# Altium integrated library Motorola Microcontroller 8-Bit.IntLib: 909 symbols (part 13 of 31)
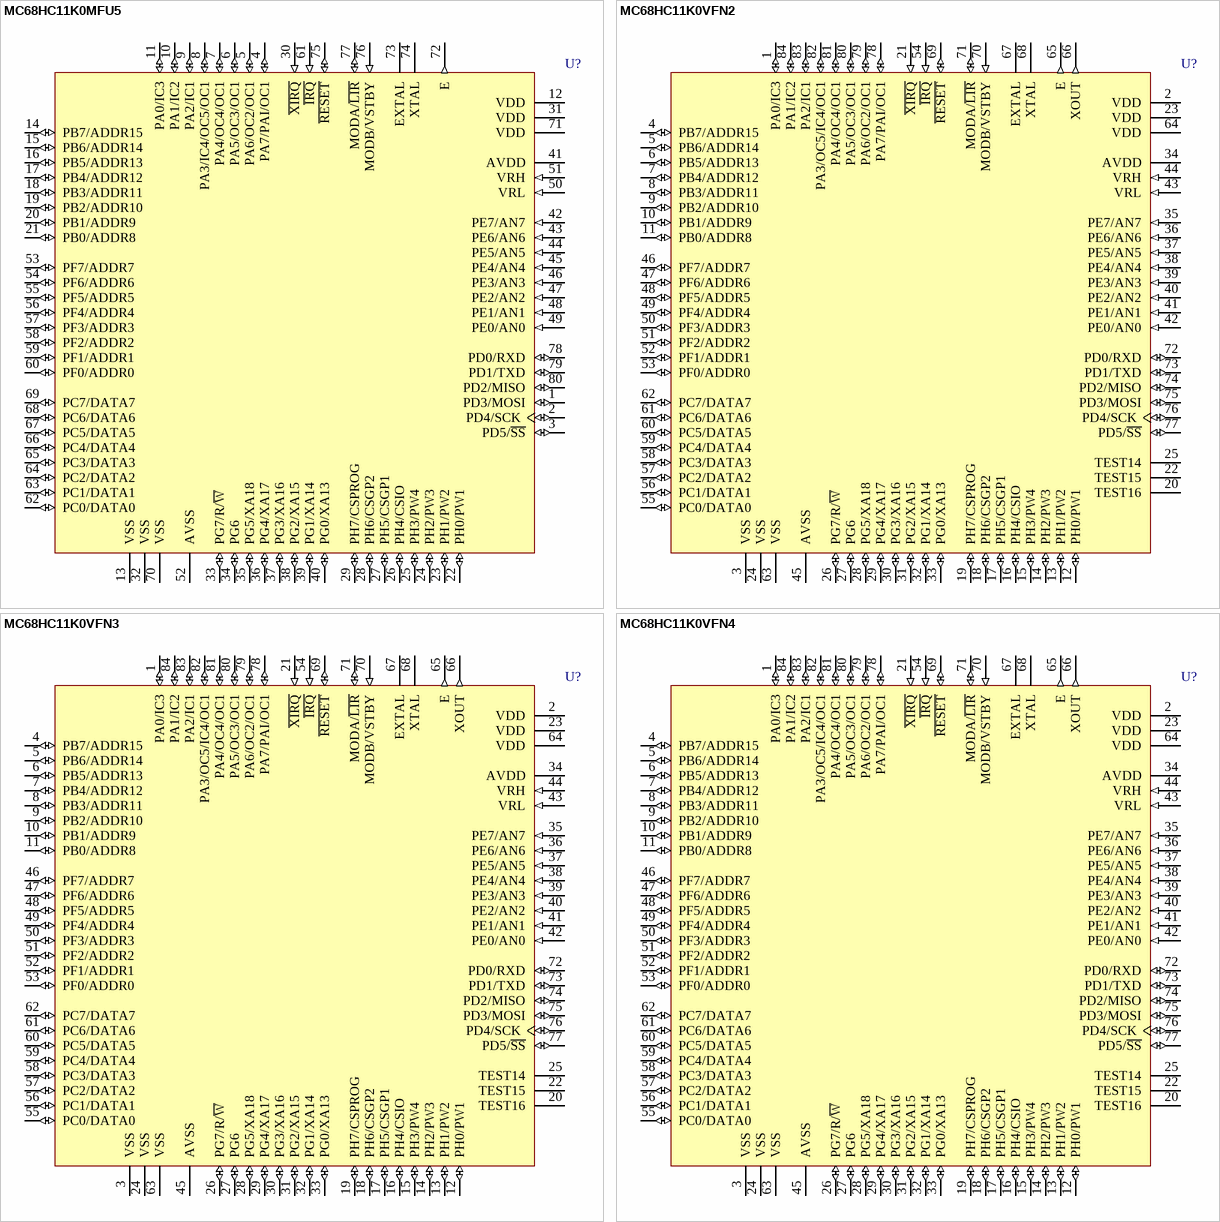
[diagram p125: symbols MC68HC11K0MFU5 to MC68HC11K0VFN4]

## MC68HC11K0VFN3
designator U?
8-Bit Microcontroller; Note: Pins 20, 22 and 25 are used only during factory testing. Do not connect to external circuitry.; Published: 17-Jan-2003; LatestRevisionDate: 13-Apr-2006; LatestRevisionNote: IPC-7351 Footprint Added.; DatasheetVersion: Nov-2001; PackageVersion: 2001; PackageReference: 780; Publisher: Altium Limited; PackageDescription: 84-Pin Plastic Leaded Chip Carrier 1.27 mm Pitch; Code_IPC: PLCC-84; ComponentLink1Description: Manufacturer Link; ComponentLink1URL: http://www.freescale.com/
footprint 780_N (Leaded Chip Carrier, 84-Leads, Body 29.3x29.3mm, Pitch 1.27mm, IPC Medium Density)
footprint 780_L (Leaded Chip Carrier, 84-Leads, Body 29.3x29.3mm, Pitch 1.27mm, IPC High Density)
footprint 780_M (Leaded Chip Carrier, 84-Leads, Body 29.3x29.3mm, Pitch 1.27mm, IPC Low Density)
3D model MC68HC11-780 (84-Pin Plastic Leaded Chip Carrier 1.27 mm Pitch)
pins: 1 PA0/IC3 (io), 2 VDD (power), 3 VSS (power), 4 PB7/ADDR15 (io), 5 PB6/ADDR14 (io), 6 PB5/ADDR13 (io), 7 PB4/ADDR12 (io), 8 PB3/ADDR11 (io), 9 PB2/ADDR10 (io), 10 PB1/ADDR9 (io), 11 PB0/ADDR8 (io), 12 PH0/PW1 (io), 13 PH1/PW2 (io), 14 PH2/PW3 (io), 15 PH3/PW4 (io), 16 PH4/CSIO (io), 17 PH5/CSGP1 (io), 18 PH6/CSGP2 (io), 19 PH7/CSPROG (io), 20 TEST16, 21 ~{XIRQ} (in), 22 TEST15, 23 VDD (power), 24 VSS (power), 25 TEST14, 26 PG7/R/~{W} (io), 27 PG6 (io), 28 PG5/XA18 (io), 29 PG4/XA17 (io), 30 PG3/XA16 (io), 31 PG2/XA15 (io), 32 PG1/XA14 (io), 33 PG0/XA13 (io), 34 AVDD (power), 35 PE7/AN7 (in), 36 PE6/AN6 (in), 37 PE5/AN5 (in), 38 PE4/AN4 (in), 39 PE3/AN3 (in), 40 PE2/AN2 (in), 41 PE1/AN1 (in), 42 PE0/AN0 (in), 43 VRL (in), 44 VRH (in), 45 AVSS (power), 46 PF7/ADDR7 (io), 47 PF6/ADDR6 (io), 48 PF5/ADDR5 (io), 49 PF4/ADDR4 (io), 50 PF3/ADDR3 (io), 51 PF2/ADDR2 (io), 52 PF1/ADDR1 (io), 53 PF0/ADDR0 (io), 54 ~{IRQ} (in), 55 PC0/DATA0 (io), 56 PC1/DATA1 (io), 57 PC2/DATA2 (io), 58 PC3/DATA3 (io), 59 PC4/DATA4 (io), 60 PC5/DATA5 (io), 61 PC6/DATA6 (io), 62 PC7/DATA7 (io), 63 VSS (power), 64 VDD (power), 65 E (out), 66 XOUT (out), 67 EXTAL, 68 XTAL, 69 ~{RESET} (io), 70 MODB/VSTBY (in), 71 MODA/~{LIR} (io), 72 PD0/RXD (io), 73 PD1/TXD (io), 74 PD2/MISO (io), 75 PD3/MOSI (io), 76 PD4/SCK (io), 77 PD5/~{SS} (io), 78 PA7/PAI/OC1 (io), 79 PA6/OC2/OC1 (io), 80 PA5/OC3/OC1 (io), 81 PA4/OC4/OC1 (io), 82 PA3/OC5/IC4/OC1 (io), 83 PA2/IC1 (io), 84 PA1/IC2 (io)

## MC68HC11K0VFN4
designator U?
8-Bit Microcontroller; Note: Pins 20, 22 and 25 are used only during factory testing. Do not connect to external circuitry.; Published: 17-Jan-2003; LatestRevisionDate: 13-Apr-2006; LatestRevisionNote: IPC-7351 Footprint Added.; DatasheetVersion: Nov-2001; PackageVersion: 2001; PackageReference: 780; Publisher: Altium Limited; PackageDescription: 84-Pin Plastic Leaded Chip Carrier 1.27 mm Pitch; Code_IPC: PLCC-84; ComponentLink1Description: Manufacturer Link; ComponentLink1URL: http://www.freescale.com/
footprint 780_N (Leaded Chip Carrier, 84-Leads, Body 29.3x29.3mm, Pitch 1.27mm, IPC Medium Density)
footprint 780_L (Leaded Chip Carrier, 84-Leads, Body 29.3x29.3mm, Pitch 1.27mm, IPC High Density)
footprint 780_M (Leaded Chip Carrier, 84-Leads, Body 29.3x29.3mm, Pitch 1.27mm, IPC Low Density)
3D model MC68HC11-780 (84-Pin Plastic Leaded Chip Carrier 1.27 mm Pitch)
pins: 1 PA0/IC3 (io), 2 VDD (power), 3 VSS (power), 4 PB7/ADDR15 (io), 5 PB6/ADDR14 (io), 6 PB5/ADDR13 (io), 7 PB4/ADDR12 (io), 8 PB3/ADDR11 (io), 9 PB2/ADDR10 (io), 10 PB1/ADDR9 (io), 11 PB0/ADDR8 (io), 12 PH0/PW1 (io), 13 PH1/PW2 (io), 14 PH2/PW3 (io), 15 PH3/PW4 (io), 16 PH4/CSIO (io), 17 PH5/CSGP1 (io), 18 PH6/CSGP2 (io), 19 PH7/CSPROG (io), 20 TEST16, 21 ~{XIRQ} (in), 22 TEST15, 23 VDD (power), 24 VSS (power), 25 TEST14, 26 PG7/R/~{W} (io), 27 PG6 (io), 28 PG5/XA18 (io), 29 PG4/XA17 (io), 30 PG3/XA16 (io), 31 PG2/XA15 (io), 32 PG1/XA14 (io), 33 PG0/XA13 (io), 34 AVDD (power), 35 PE7/AN7 (in), 36 PE6/AN6 (in), 37 PE5/AN5 (in), 38 PE4/AN4 (in), 39 PE3/AN3 (in), 40 PE2/AN2 (in), 41 PE1/AN1 (in), 42 PE0/AN0 (in), 43 VRL (in), 44 VRH (in), 45 AVSS (power), 46 PF7/ADDR7 (io), 47 PF6/ADDR6 (io), 48 PF5/ADDR5 (io), 49 PF4/ADDR4 (io), 50 PF3/ADDR3 (io), 51 PF2/ADDR2 (io), 52 PF1/ADDR1 (io), 53 PF0/ADDR0 (io), 54 ~{IRQ} (in), 55 PC0/DATA0 (io), 56 PC1/DATA1 (io), 57 PC2/DATA2 (io), 58 PC3/DATA3 (io), 59 PC4/DATA4 (io), 60 PC5/DATA5 (io), 61 PC6/DATA6 (io), 62 PC7/DATA7 (io), 63 VSS (power), 64 VDD (power), 65 E (out), 66 XOUT (out), 67 EXTAL, 68 XTAL, 69 ~{RESET} (io), 70 MODB/VSTBY (in), 71 MODA/~{LIR} (io), 72 PD0/RXD (io), 73 PD1/TXD (io), 74 PD2/MISO (io), 75 PD3/MOSI (io), 76 PD4/SCK (io), 77 PD5/~{SS} (io), 78 PA7/PAI/OC1 (io), 79 PA6/OC2/OC1 (io), 80 PA5/OC3/OC1 (io), 81 PA4/OC4/OC1 (io), 82 PA3/OC5/IC4/OC1 (io), 83 PA2/IC1 (io), 84 PA1/IC2 (io)

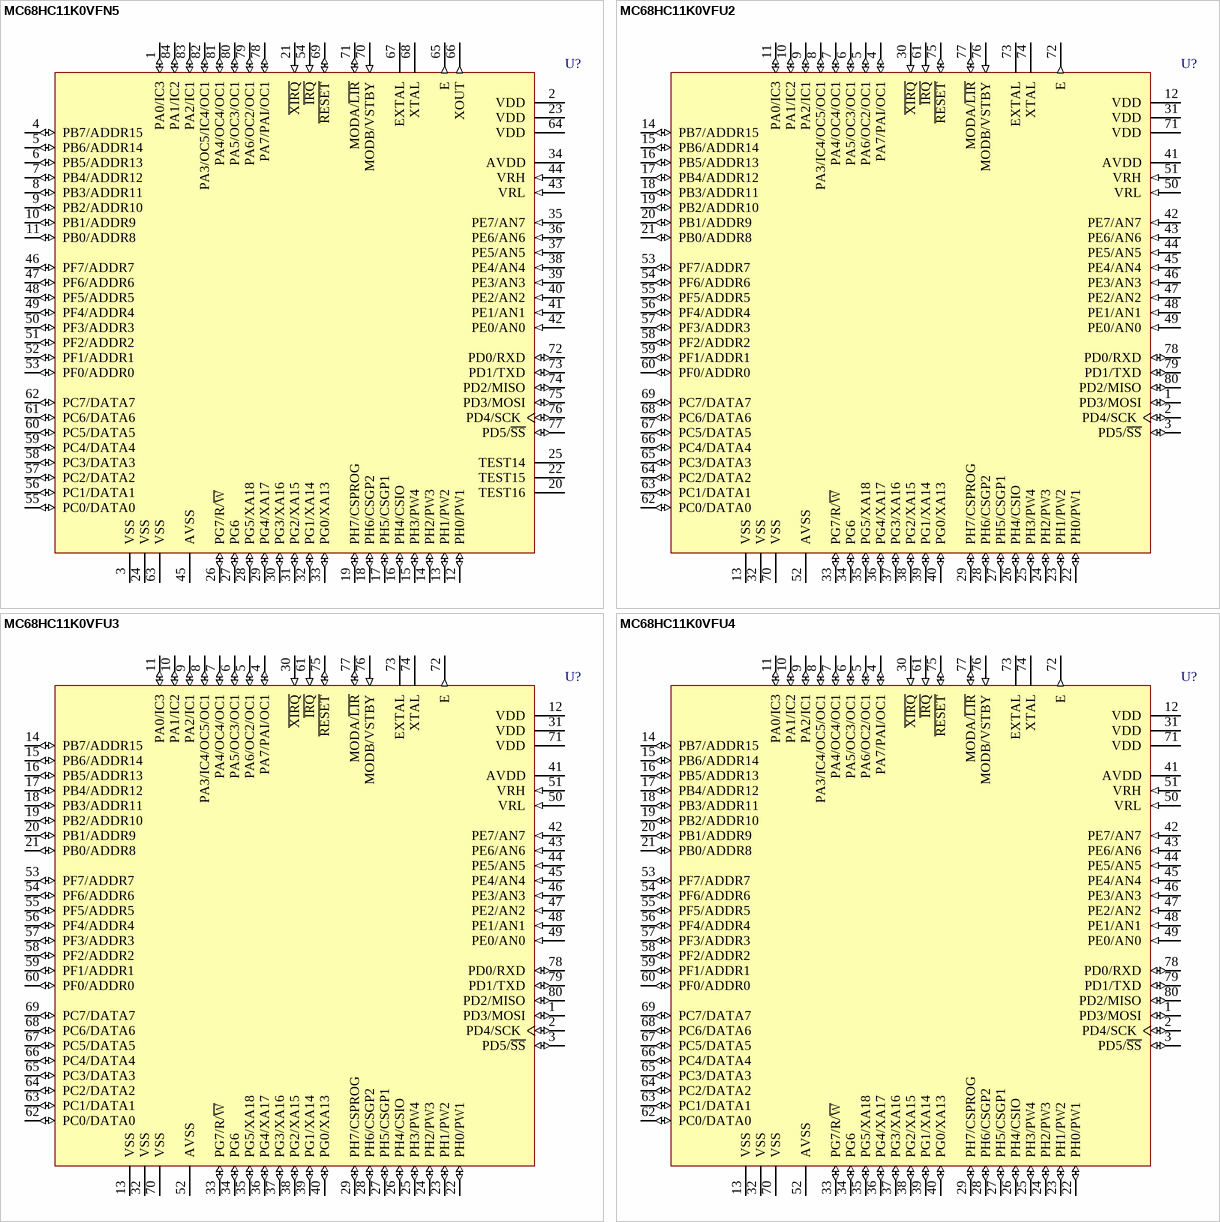
[diagram p41: symbols MC68HC11K0VFN5 to MC68HC11K0VFU4]

## MC68HC11K0VFN5
designator U?
8-Bit Microcontroller; Note: Pins 20, 22 and 25 are used only during factory testing. Do not connect to external circuitry.; Published: 17-Jan-2003; LatestRevisionDate: 13-Apr-2006; LatestRevisionNote: IPC-7351 Footprint Added.; DatasheetVersion: Nov-2001; PackageVersion: 2001; PackageReference: 780; Publisher: Altium Limited; PackageDescription: 84-Pin Plastic Leaded Chip Carrier 1.27 mm Pitch; Code_IPC: PLCC-84; ComponentLink1Description: Manufacturer Link; ComponentLink1URL: http://www.freescale.com/
footprint 780_N (Leaded Chip Carrier, 84-Leads, Body 29.3x29.3mm, Pitch 1.27mm, IPC Medium Density)
footprint 780_L (Leaded Chip Carrier, 84-Leads, Body 29.3x29.3mm, Pitch 1.27mm, IPC High Density)
footprint 780_M (Leaded Chip Carrier, 84-Leads, Body 29.3x29.3mm, Pitch 1.27mm, IPC Low Density)
3D model MC68HC11-780 (84-Pin Plastic Leaded Chip Carrier 1.27 mm Pitch)
pins: 1 PA0/IC3 (io), 2 VDD (power), 3 VSS (power), 4 PB7/ADDR15 (io), 5 PB6/ADDR14 (io), 6 PB5/ADDR13 (io), 7 PB4/ADDR12 (io), 8 PB3/ADDR11 (io), 9 PB2/ADDR10 (io), 10 PB1/ADDR9 (io), 11 PB0/ADDR8 (io), 12 PH0/PW1 (io), 13 PH1/PW2 (io), 14 PH2/PW3 (io), 15 PH3/PW4 (io), 16 PH4/CSIO (io), 17 PH5/CSGP1 (io), 18 PH6/CSGP2 (io), 19 PH7/CSPROG (io), 20 TEST16, 21 ~{XIRQ} (in), 22 TEST15, 23 VDD (power), 24 VSS (power), 25 TEST14, 26 PG7/R/~{W} (io), 27 PG6 (io), 28 PG5/XA18 (io), 29 PG4/XA17 (io), 30 PG3/XA16 (io), 31 PG2/XA15 (io), 32 PG1/XA14 (io), 33 PG0/XA13 (io), 34 AVDD (power), 35 PE7/AN7 (in), 36 PE6/AN6 (in), 37 PE5/AN5 (in), 38 PE4/AN4 (in), 39 PE3/AN3 (in), 40 PE2/AN2 (in), 41 PE1/AN1 (in), 42 PE0/AN0 (in), 43 VRL (in), 44 VRH (in), 45 AVSS (power), 46 PF7/ADDR7 (io), 47 PF6/ADDR6 (io), 48 PF5/ADDR5 (io), 49 PF4/ADDR4 (io), 50 PF3/ADDR3 (io), 51 PF2/ADDR2 (io), 52 PF1/ADDR1 (io), 53 PF0/ADDR0 (io), 54 ~{IRQ} (in), 55 PC0/DATA0 (io), 56 PC1/DATA1 (io), 57 PC2/DATA2 (io), 58 PC3/DATA3 (io), 59 PC4/DATA4 (io), 60 PC5/DATA5 (io), 61 PC6/DATA6 (io), 62 PC7/DATA7 (io), 63 VSS (power), 64 VDD (power), 65 E (out), 66 XOUT (out), 67 EXTAL, 68 XTAL, 69 ~{RESET} (io), 70 MODB/VSTBY (in), 71 MODA/~{LIR} (io), 72 PD0/RXD (io), 73 PD1/TXD (io), 74 PD2/MISO (io), 75 PD3/MOSI (io), 76 PD4/SCK (io), 77 PD5/~{SS} (io), 78 PA7/PAI/OC1 (io), 79 PA6/OC2/OC1 (io), 80 PA5/OC3/OC1 (io), 81 PA4/OC4/OC1 (io), 82 PA3/OC5/IC4/OC1 (io), 83 PA2/IC1 (io), 84 PA1/IC2 (io)

## MC68HC11K0VFU2
designator U?
8-Bit Microcontroller; Published: 17-Jan-2003; LatestRevisionDate: 13-Apr-2006; LatestRevisionNote: IPC-7351 Footprint Added.; DatasheetVersion: Nov-2001; PackageVersion: 2000; PackageReference: 841B; Publisher: Altium Limited; PackageDescription: 80-Pin Plastic Quad Flat Pack 0.65 mm Pitch; Code_IPC: QFP65P1720X1720-80; ComponentLink1Description: Manufacturer Link; ComponentLink1URL: http://www.freescale.com/
footprint 841B_N (QFP, 80-Leads, Body 14 x 14mm, Pitch 0.65mm, IPC Medium Density)
footprint 841B_L (QFP, 80-Leads, Body 14 x 14mm, Pitch 0.65mm, IPC High Density)
footprint 841B_M (QFP, 80-Leads, Body 14 x 14mm, Pitch 0.65mm, IPC Low Density)
3D model MC68HC11-841B (80-Pin Plastic Quad Flat Pack 0.65 mm Pitch)
pins: 1 PD3/MOSI (io), 2 PD4/SCK (io), 3 PD5/~{SS} (io), 4 PA7/PAI/OC1 (io), 5 PA6/OC2/OC1 (io), 6 PA5/OC3/OC1 (io), 7 PA4/OC4/OC1 (io), 8 PA3/IC4/OC5/OC1 (io), 9 PA2/IC1 (io), 10 PA1/IC2 (io), 11 PA0/IC3 (io), 12 VDD (power), 13 VSS (power), 14 PB7/ADDR15 (io), 15 PB6/ADDR14 (io), 16 PB5/ADDR13 (io), 17 PB4/ADDR12 (io), 18 PB3/ADDR11 (io), 19 PB2/ADDR10 (io), 20 PB1/ADDR9 (io), 21 PB0/ADDR8 (io), 22 PH0/PW1 (io), 23 PH1/PW2 (io), 24 PH2/PW3 (io), 25 PH3/PW4 (io), 26 PH4/CSIO (io), 27 PH5/CSGP1 (io), 28 PH6/CSGP2 (io), 29 PH7/CSPROG (io), 30 ~{XIRQ} (in), 31 VDD (power), 32 VSS (power), 33 PG7/R/~{W} (io), 34 PG6 (io), 35 PG5/XA18 (io), 36 PG4/XA17 (io), 37 PG3/XA16 (io), 38 PG2/XA15 (io), 39 PG1/XA14 (io), 40 PG0/XA13 (io), 41 AVDD (power), 42 PE7/AN7 (in), 43 PE6/AN6 (in), 44 PE5/AN5 (in), 45 PE4/AN4 (in), 46 PE3/AN3 (in), 47 PE2/AN2 (in), 48 PE1/AN1 (in), 49 PE0/AN0 (in), 50 VRL (in), 51 VRH (in), 52 AVSS (power), 53 PF7/ADDR7 (io), 54 PF6/ADDR6 (io), 55 PF5/ADDR5 (io), 56 PF4/ADDR4 (io), 57 PF3/ADDR3 (io), 58 PF2/ADDR2 (io), 59 PF1/ADDR1 (io), 60 PF0/ADDR0 (io), 61 ~{IRQ} (in), 62 PC0/DATA0 (io), 63 PC1/DATA1 (io), 64 PC2/DATA2 (io), 65 PC3/DATA3 (io), 66 PC4/DATA4 (io), 67 PC5/DATA5 (io), 68 PC6/DATA6 (io), 69 PC7/DATA7 (io), 70 VSS (power), 71 VDD (power), 72 E (out), 73 EXTAL, 74 XTAL, 75 ~{RESET} (io), 76 MODB/VSTBY (in), 77 MODA/~{LIR} (io), 78 PD0/RXD (io), 79 PD1/TXD (io), 80 PD2/MISO (io)

## MC68HC11K0VFU3
designator U?
8-Bit Microcontroller; Published: 17-Jan-2003; LatestRevisionDate: 13-Apr-2006; LatestRevisionNote: IPC-7351 Footprint Added.; DatasheetVersion: Nov-2001; PackageVersion: 2000; PackageReference: 841B; Publisher: Altium Limited; PackageDescription: 80-Pin Plastic Quad Flat Pack 0.65 mm Pitch; Code_IPC: QFP65P1720X1720-80; ComponentLink1Description: Manufacturer Link; ComponentLink1URL: http://www.freescale.com/
footprint 841B_N (QFP, 80-Leads, Body 14 x 14mm, Pitch 0.65mm, IPC Medium Density)
footprint 841B_L (QFP, 80-Leads, Body 14 x 14mm, Pitch 0.65mm, IPC High Density)
footprint 841B_M (QFP, 80-Leads, Body 14 x 14mm, Pitch 0.65mm, IPC Low Density)
3D model MC68HC11-841B (80-Pin Plastic Quad Flat Pack 0.65 mm Pitch)
pins: 1 PD3/MOSI (io), 2 PD4/SCK (io), 3 PD5/~{SS} (io), 4 PA7/PAI/OC1 (io), 5 PA6/OC2/OC1 (io), 6 PA5/OC3/OC1 (io), 7 PA4/OC4/OC1 (io), 8 PA3/IC4/OC5/OC1 (io), 9 PA2/IC1 (io), 10 PA1/IC2 (io), 11 PA0/IC3 (io), 12 VDD (power), 13 VSS (power), 14 PB7/ADDR15 (io), 15 PB6/ADDR14 (io), 16 PB5/ADDR13 (io), 17 PB4/ADDR12 (io), 18 PB3/ADDR11 (io), 19 PB2/ADDR10 (io), 20 PB1/ADDR9 (io), 21 PB0/ADDR8 (io), 22 PH0/PW1 (io), 23 PH1/PW2 (io), 24 PH2/PW3 (io), 25 PH3/PW4 (io), 26 PH4/CSIO (io), 27 PH5/CSGP1 (io), 28 PH6/CSGP2 (io), 29 PH7/CSPROG (io), 30 ~{XIRQ} (in), 31 VDD (power), 32 VSS (power), 33 PG7/R/~{W} (io), 34 PG6 (io), 35 PG5/XA18 (io), 36 PG4/XA17 (io), 37 PG3/XA16 (io), 38 PG2/XA15 (io), 39 PG1/XA14 (io), 40 PG0/XA13 (io), 41 AVDD (power), 42 PE7/AN7 (in), 43 PE6/AN6 (in), 44 PE5/AN5 (in), 45 PE4/AN4 (in), 46 PE3/AN3 (in), 47 PE2/AN2 (in), 48 PE1/AN1 (in), 49 PE0/AN0 (in), 50 VRL (in), 51 VRH (in), 52 AVSS (power), 53 PF7/ADDR7 (io), 54 PF6/ADDR6 (io), 55 PF5/ADDR5 (io), 56 PF4/ADDR4 (io), 57 PF3/ADDR3 (io), 58 PF2/ADDR2 (io), 59 PF1/ADDR1 (io), 60 PF0/ADDR0 (io), 61 ~{IRQ} (in), 62 PC0/DATA0 (io), 63 PC1/DATA1 (io), 64 PC2/DATA2 (io), 65 PC3/DATA3 (io), 66 PC4/DATA4 (io), 67 PC5/DATA5 (io), 68 PC6/DATA6 (io), 69 PC7/DATA7 (io), 70 VSS (power), 71 VDD (power), 72 E (out), 73 EXTAL, 74 XTAL, 75 ~{RESET} (io), 76 MODB/VSTBY (in), 77 MODA/~{LIR} (io), 78 PD0/RXD (io), 79 PD1/TXD (io), 80 PD2/MISO (io)

## MC68HC11K0VFU4
designator U?
8-Bit Microcontroller; Published: 17-Jan-2003; LatestRevisionDate: 13-Apr-2006; LatestRevisionNote: IPC-7351 Footprint Added.; DatasheetVersion: Nov-2001; PackageVersion: 2000; PackageReference: 841B; Publisher: Altium Limited; PackageDescription: 80-Pin Plastic Quad Flat Pack 0.65 mm Pitch; Code_IPC: QFP65P1720X1720-80; ComponentLink1Description: Manufacturer Link; ComponentLink1URL: http://www.freescale.com/
footprint 841B_N (QFP, 80-Leads, Body 14 x 14mm, Pitch 0.65mm, IPC Medium Density)
footprint 841B_L (QFP, 80-Leads, Body 14 x 14mm, Pitch 0.65mm, IPC High Density)
footprint 841B_M (QFP, 80-Leads, Body 14 x 14mm, Pitch 0.65mm, IPC Low Density)
3D model MC68HC11-841B (80-Pin Plastic Quad Flat Pack 0.65 mm Pitch)
pins: 1 PD3/MOSI (io), 2 PD4/SCK (io), 3 PD5/~{SS} (io), 4 PA7/PAI/OC1 (io), 5 PA6/OC2/OC1 (io), 6 PA5/OC3/OC1 (io), 7 PA4/OC4/OC1 (io), 8 PA3/IC4/OC5/OC1 (io), 9 PA2/IC1 (io), 10 PA1/IC2 (io), 11 PA0/IC3 (io), 12 VDD (power), 13 VSS (power), 14 PB7/ADDR15 (io), 15 PB6/ADDR14 (io), 16 PB5/ADDR13 (io), 17 PB4/ADDR12 (io), 18 PB3/ADDR11 (io), 19 PB2/ADDR10 (io), 20 PB1/ADDR9 (io), 21 PB0/ADDR8 (io), 22 PH0/PW1 (io), 23 PH1/PW2 (io), 24 PH2/PW3 (io), 25 PH3/PW4 (io), 26 PH4/CSIO (io), 27 PH5/CSGP1 (io), 28 PH6/CSGP2 (io), 29 PH7/CSPROG (io), 30 ~{XIRQ} (in), 31 VDD (power), 32 VSS (power), 33 PG7/R/~{W} (io), 34 PG6 (io), 35 PG5/XA18 (io), 36 PG4/XA17 (io), 37 PG3/XA16 (io), 38 PG2/XA15 (io), 39 PG1/XA14 (io), 40 PG0/XA13 (io), 41 AVDD (power), 42 PE7/AN7 (in), 43 PE6/AN6 (in), 44 PE5/AN5 (in), 45 PE4/AN4 (in), 46 PE3/AN3 (in), 47 PE2/AN2 (in), 48 PE1/AN1 (in), 49 PE0/AN0 (in), 50 VRL (in), 51 VRH (in), 52 AVSS (power), 53 PF7/ADDR7 (io), 54 PF6/ADDR6 (io), 55 PF5/ADDR5 (io), 56 PF4/ADDR4 (io), 57 PF3/ADDR3 (io), 58 PF2/ADDR2 (io), 59 PF1/ADDR1 (io), 60 PF0/ADDR0 (io), 61 ~{IRQ} (in), 62 PC0/DATA0 (io), 63 PC1/DATA1 (io), 64 PC2/DATA2 (io), 65 PC3/DATA3 (io), 66 PC4/DATA4 (io), 67 PC5/DATA5 (io), 68 PC6/DATA6 (io), 69 PC7/DATA7 (io), 70 VSS (power), 71 VDD (power), 72 E (out), 73 EXTAL, 74 XTAL, 75 ~{RESET} (io), 76 MODB/VSTBY (in), 77 MODA/~{LIR} (io), 78 PD0/RXD (io), 79 PD1/TXD (io), 80 PD2/MISO (io)

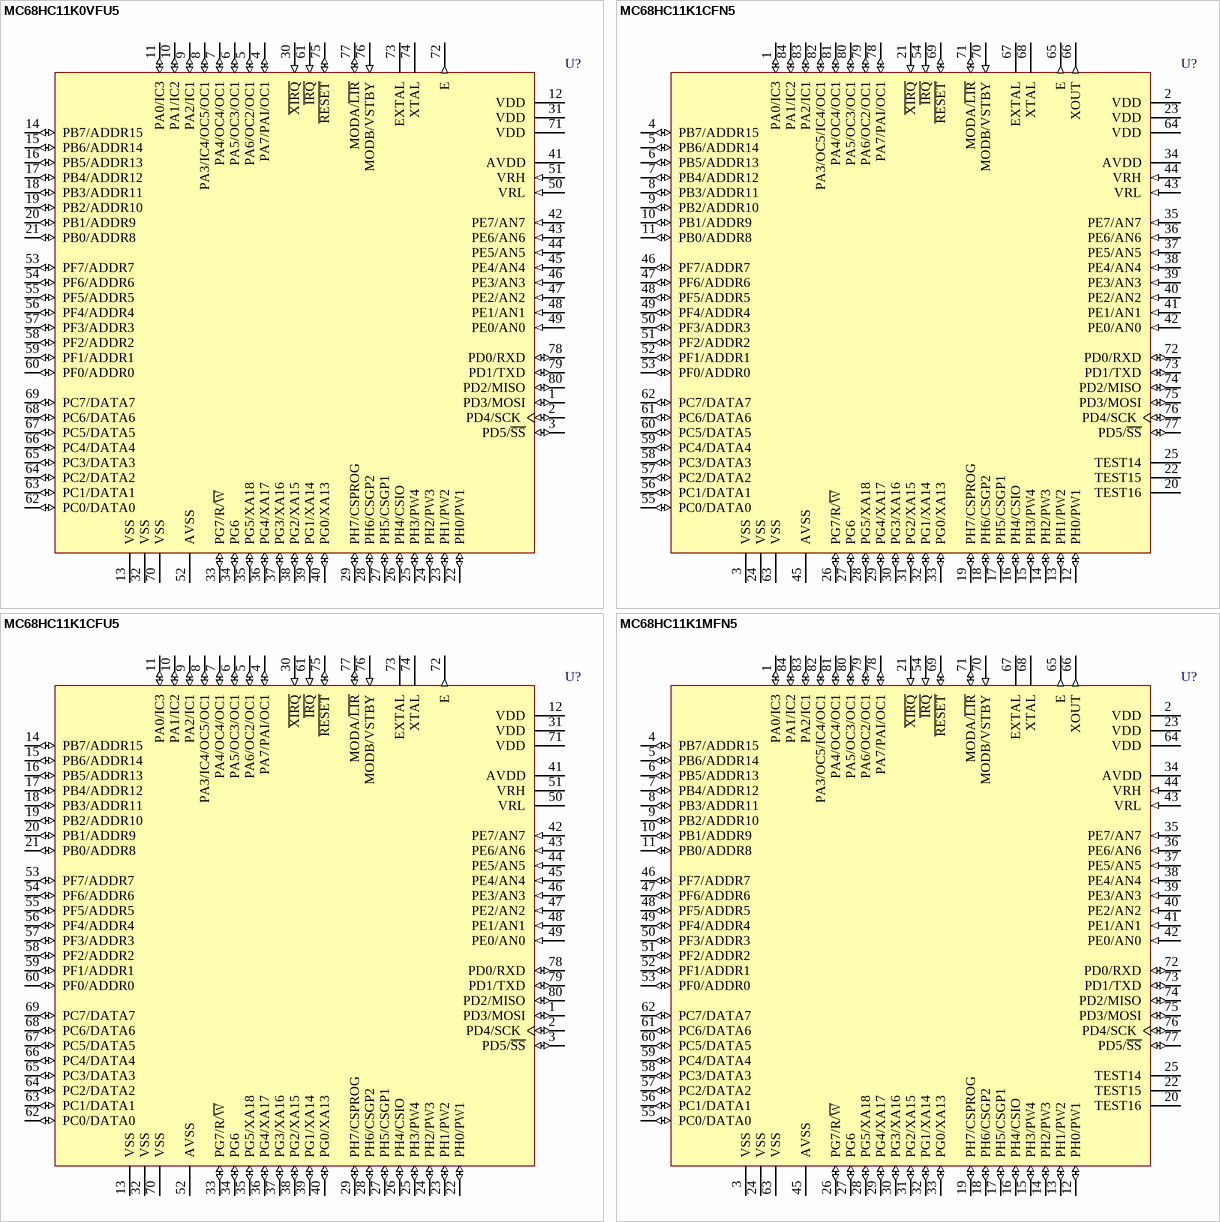
[diagram p42: symbols MC68HC11K0VFU5 to MC68HC11K1MFN5]

## MC68HC11K0VFU5
designator U?
8-Bit Microcontroller; Published: 17-Jan-2003; LatestRevisionDate: 13-Apr-2006; LatestRevisionNote: IPC-7351 Footprint Added.; DatasheetVersion: Nov-2001; PackageVersion: 2000; PackageReference: 841B; Publisher: Altium Limited; PackageDescription: 80-Pin Plastic Quad Flat Pack 0.65 mm Pitch; Code_IPC: QFP65P1720X1720-80; ComponentLink1Description: Manufacturer Link; ComponentLink1URL: http://www.freescale.com/
footprint 841B_N (QFP, 80-Leads, Body 14 x 14mm, Pitch 0.65mm, IPC Medium Density)
footprint 841B_L (QFP, 80-Leads, Body 14 x 14mm, Pitch 0.65mm, IPC High Density)
footprint 841B_M (QFP, 80-Leads, Body 14 x 14mm, Pitch 0.65mm, IPC Low Density)
3D model MC68HC11-841B (80-Pin Plastic Quad Flat Pack 0.65 mm Pitch)
pins: 1 PD3/MOSI (io), 2 PD4/SCK (io), 3 PD5/~{SS} (io), 4 PA7/PAI/OC1 (io), 5 PA6/OC2/OC1 (io), 6 PA5/OC3/OC1 (io), 7 PA4/OC4/OC1 (io), 8 PA3/IC4/OC5/OC1 (io), 9 PA2/IC1 (io), 10 PA1/IC2 (io), 11 PA0/IC3 (io), 12 VDD (power), 13 VSS (power), 14 PB7/ADDR15 (io), 15 PB6/ADDR14 (io), 16 PB5/ADDR13 (io), 17 PB4/ADDR12 (io), 18 PB3/ADDR11 (io), 19 PB2/ADDR10 (io), 20 PB1/ADDR9 (io), 21 PB0/ADDR8 (io), 22 PH0/PW1 (io), 23 PH1/PW2 (io), 24 PH2/PW3 (io), 25 PH3/PW4 (io), 26 PH4/CSIO (io), 27 PH5/CSGP1 (io), 28 PH6/CSGP2 (io), 29 PH7/CSPROG (io), 30 ~{XIRQ} (in), 31 VDD (power), 32 VSS (power), 33 PG7/R/~{W} (io), 34 PG6 (io), 35 PG5/XA18 (io), 36 PG4/XA17 (io), 37 PG3/XA16 (io), 38 PG2/XA15 (io), 39 PG1/XA14 (io), 40 PG0/XA13 (io), 41 AVDD (power), 42 PE7/AN7 (in), 43 PE6/AN6 (in), 44 PE5/AN5 (in), 45 PE4/AN4 (in), 46 PE3/AN3 (in), 47 PE2/AN2 (in), 48 PE1/AN1 (in), 49 PE0/AN0 (in), 50 VRL (in), 51 VRH (in), 52 AVSS (power), 53 PF7/ADDR7 (io), 54 PF6/ADDR6 (io), 55 PF5/ADDR5 (io), 56 PF4/ADDR4 (io), 57 PF3/ADDR3 (io), 58 PF2/ADDR2 (io), 59 PF1/ADDR1 (io), 60 PF0/ADDR0 (io), 61 ~{IRQ} (in), 62 PC0/DATA0 (io), 63 PC1/DATA1 (io), 64 PC2/DATA2 (io), 65 PC3/DATA3 (io), 66 PC4/DATA4 (io), 67 PC5/DATA5 (io), 68 PC6/DATA6 (io), 69 PC7/DATA7 (io), 70 VSS (power), 71 VDD (power), 72 E (out), 73 EXTAL, 74 XTAL, 75 ~{RESET} (io), 76 MODB/VSTBY (in), 77 MODA/~{LIR} (io), 78 PD0/RXD (io), 79 PD1/TXD (io), 80 PD2/MISO (io)

## MC68HC11K1CFN5
designator U?
8-Bit Microcontroller; Note: Pins 20, 22 and 25 are used only during factory testing. Do not connect to external circuitry.; Published: 17-Jan-2003; LatestRevisionDate: 13-Apr-2006; LatestRevisionNote: IPC-7351 Footprint Added.; DatasheetVersion: Nov-2001; PackageVersion: 2001; PackageReference: 780; Publisher: Altium Limited; PackageDescription: 84-Pin Plastic Leaded Chip Carrier 1.27 mm Pitch; Code_IPC: PLCC-84; ComponentLink1Description: Manufacturer Link; ComponentLink1URL: http://www.freescale.com/
footprint 780_N (Leaded Chip Carrier, 84-Leads, Body 29.3x29.3mm, Pitch 1.27mm, IPC Medium Density)
footprint 780_L (Leaded Chip Carrier, 84-Leads, Body 29.3x29.3mm, Pitch 1.27mm, IPC High Density)
footprint 780_M (Leaded Chip Carrier, 84-Leads, Body 29.3x29.3mm, Pitch 1.27mm, IPC Low Density)
3D model MC68HC11-780 (84-Pin Plastic Leaded Chip Carrier 1.27 mm Pitch)
pins: 1 PA0/IC3 (io), 2 VDD (power), 3 VSS (power), 4 PB7/ADDR15 (io), 5 PB6/ADDR14 (io), 6 PB5/ADDR13 (io), 7 PB4/ADDR12 (io), 8 PB3/ADDR11 (io), 9 PB2/ADDR10 (io), 10 PB1/ADDR9 (io), 11 PB0/ADDR8 (io), 12 PH0/PW1 (io), 13 PH1/PW2 (io), 14 PH2/PW3 (io), 15 PH3/PW4 (io), 16 PH4/CSIO (io), 17 PH5/CSGP1 (io), 18 PH6/CSGP2 (io), 19 PH7/CSPROG (io), 20 TEST16, 21 ~{XIRQ} (in), 22 TEST15, 23 VDD (power), 24 VSS (power), 25 TEST14, 26 PG7/R/~{W} (io), 27 PG6 (io), 28 PG5/XA18 (io), 29 PG4/XA17 (io), 30 PG3/XA16 (io), 31 PG2/XA15 (io), 32 PG1/XA14 (io), 33 PG0/XA13 (io), 34 AVDD (power), 35 PE7/AN7 (in), 36 PE6/AN6 (in), 37 PE5/AN5 (in), 38 PE4/AN4 (in), 39 PE3/AN3 (in), 40 PE2/AN2 (in), 41 PE1/AN1 (in), 42 PE0/AN0 (in), 43 VRL (in), 44 VRH (in), 45 AVSS (power), 46 PF7/ADDR7 (io), 47 PF6/ADDR6 (io), 48 PF5/ADDR5 (io), 49 PF4/ADDR4 (io), 50 PF3/ADDR3 (io), 51 PF2/ADDR2 (io), 52 PF1/ADDR1 (io), 53 PF0/ADDR0 (io), 54 ~{IRQ} (in), 55 PC0/DATA0 (io), 56 PC1/DATA1 (io), 57 PC2/DATA2 (io), 58 PC3/DATA3 (io), 59 PC4/DATA4 (io), 60 PC5/DATA5 (io), 61 PC6/DATA6 (io), 62 PC7/DATA7 (io), 63 VSS (power), 64 VDD (power), 65 E (out), 66 XOUT (out), 67 EXTAL, 68 XTAL, 69 ~{RESET} (io), 70 MODB/VSTBY (in), 71 MODA/~{LIR} (io), 72 PD0/RXD (io), 73 PD1/TXD (io), 74 PD2/MISO (io), 75 PD3/MOSI (io), 76 PD4/SCK (io), 77 PD5/~{SS} (io), 78 PA7/PAI/OC1 (io), 79 PA6/OC2/OC1 (io), 80 PA5/OC3/OC1 (io), 81 PA4/OC4/OC1 (io), 82 PA3/OC5/IC4/OC1 (io), 83 PA2/IC1 (io), 84 PA1/IC2 (io)

## MC68HC11K1CFU5
designator U?
8-Bit Microcontroller; Published: 17-Jan-2003; LatestRevisionDate: 13-Apr-2006; LatestRevisionNote: IPC-7351 Footprint Added.; DatasheetVersion: Nov-2001; PackageVersion: 2000; PackageReference: 841B; Publisher: Altium Limited; PackageDescription: 80-Pin Plastic Quad Flat Pack 0.65 mm Pitch; Code_IPC: QFP65P1720X1720-80; ComponentLink1Description: Manufacturer Link; ComponentLink1URL: http://www.freescale.com/
footprint 841B_N (QFP, 80-Leads, Body 14 x 14mm, Pitch 0.65mm, IPC Medium Density)
footprint 841B_L (QFP, 80-Leads, Body 14 x 14mm, Pitch 0.65mm, IPC High Density)
footprint 841B_M (QFP, 80-Leads, Body 14 x 14mm, Pitch 0.65mm, IPC Low Density)
3D model MC68HC11-841B (80-Pin Plastic Quad Flat Pack 0.65 mm Pitch)
pins: 1 PD3/MOSI (io), 2 PD4/SCK (io), 3 PD5/~{SS} (io), 4 PA7/PAI/OC1 (io), 5 PA6/OC2/OC1 (io), 6 PA5/OC3/OC1 (io), 7 PA4/OC4/OC1 (io), 8 PA3/IC4/OC5/OC1 (io), 9 PA2/IC1 (io), 10 PA1/IC2 (io), 11 PA0/IC3 (io), 12 VDD (power), 13 VSS (power), 14 PB7/ADDR15 (io), 15 PB6/ADDR14 (io), 16 PB5/ADDR13 (io), 17 PB4/ADDR12 (io), 18 PB3/ADDR11 (io), 19 PB2/ADDR10 (io), 20 PB1/ADDR9 (io), 21 PB0/ADDR8 (io), 22 PH0/PW1 (io), 23 PH1/PW2 (io), 24 PH2/PW3 (io), 25 PH3/PW4 (io), 26 PH4/CSIO (io), 27 PH5/CSGP1 (io), 28 PH6/CSGP2 (io), 29 PH7/CSPROG (io), 30 ~{XIRQ} (in), 31 VDD (power), 32 VSS (power), 33 PG7/R/~{W} (io), 34 PG6 (io), 35 PG5/XA18 (io), 36 PG4/XA17 (io), 37 PG3/XA16 (io), 38 PG2/XA15 (io), 39 PG1/XA14 (io), 40 PG0/XA13 (io), 41 AVDD (power), 42 PE7/AN7 (in), 43 PE6/AN6 (in), 44 PE5/AN5 (in), 45 PE4/AN4 (in), 46 PE3/AN3 (in), 47 PE2/AN2 (in), 48 PE1/AN1 (in), 49 PE0/AN0 (in), 50 VRL, 51 VRH, 52 AVSS (power), 53 PF7/ADDR7 (io), 54 PF6/ADDR6 (io), 55 PF5/ADDR5 (io), 56 PF4/ADDR4 (io), 57 PF3/ADDR3 (io), 58 PF2/ADDR2 (io), 59 PF1/ADDR1 (io), 60 PF0/ADDR0 (io), 61 ~{IRQ} (in), 62 PC0/DATA0 (io), 63 PC1/DATA1 (io), 64 PC2/DATA2 (io), 65 PC3/DATA3 (io), 66 PC4/DATA4 (io), 67 PC5/DATA5 (io), 68 PC6/DATA6 (io), 69 PC7/DATA7 (io), 70 VSS (power), 71 VDD (power), 72 E (out), 73 EXTAL, 74 XTAL, 75 ~{RESET} (io), 76 MODB/VSTBY (in), 77 MODA/~{LIR} (io), 78 PD0/RXD (io), 79 PD1/TXD (io), 80 PD2/MISO (io)

## MC68HC11K1MFN5
designator U?
8-Bit Microcontroller; Note: Pins 20, 22 and 25 are used only during factory testing. Do not connect to external circuitry.; Published: 17-Jan-2003; LatestRevisionDate: 13-Apr-2006; LatestRevisionNote: IPC-7351 Footprint Added.; DatasheetVersion: Nov-2001; PackageVersion: 2001; PackageReference: 780; Publisher: Altium Limited; PackageDescription: 84-Pin Plastic Leaded Chip Carrier 1.27 mm Pitch; Code_IPC: PLCC-84; ComponentLink1Description: Manufacturer Link; ComponentLink1URL: http://www.freescale.com/
footprint 780_N (Leaded Chip Carrier, 84-Leads, Body 29.3x29.3mm, Pitch 1.27mm, IPC Medium Density)
footprint 780_L (Leaded Chip Carrier, 84-Leads, Body 29.3x29.3mm, Pitch 1.27mm, IPC High Density)
footprint 780_M (Leaded Chip Carrier, 84-Leads, Body 29.3x29.3mm, Pitch 1.27mm, IPC Low Density)
3D model MC68HC11-780 (84-Pin Plastic Leaded Chip Carrier 1.27 mm Pitch)
pins: 1 PA0/IC3 (io), 2 VDD (power), 3 VSS (power), 4 PB7/ADDR15 (io), 5 PB6/ADDR14 (io), 6 PB5/ADDR13 (io), 7 PB4/ADDR12 (io), 8 PB3/ADDR11 (io), 9 PB2/ADDR10 (io), 10 PB1/ADDR9 (io), 11 PB0/ADDR8 (io), 12 PH0/PW1 (io), 13 PH1/PW2 (io), 14 PH2/PW3 (io), 15 PH3/PW4 (io), 16 PH4/CSIO (io), 17 PH5/CSGP1 (io), 18 PH6/CSGP2 (io), 19 PH7/CSPROG (io), 20 TEST16, 21 ~{XIRQ} (in), 22 TEST15, 23 VDD (power), 24 VSS (power), 25 TEST14, 26 PG7/R/~{W} (io), 27 PG6 (io), 28 PG5/XA18 (io), 29 PG4/XA17 (io), 30 PG3/XA16 (io), 31 PG2/XA15 (io), 32 PG1/XA14 (io), 33 PG0/XA13 (io), 34 AVDD (power), 35 PE7/AN7 (in), 36 PE6/AN6 (in), 37 PE5/AN5 (in), 38 PE4/AN4 (in), 39 PE3/AN3 (in), 40 PE2/AN2 (in), 41 PE1/AN1 (in), 42 PE0/AN0 (in), 43 VRL (in), 44 VRH (in), 45 AVSS (power), 46 PF7/ADDR7 (io), 47 PF6/ADDR6 (io), 48 PF5/ADDR5 (io), 49 PF4/ADDR4 (io), 50 PF3/ADDR3 (io), 51 PF2/ADDR2 (io), 52 PF1/ADDR1 (io), 53 PF0/ADDR0 (io), 54 ~{IRQ} (in), 55 PC0/DATA0 (io), 56 PC1/DATA1 (io), 57 PC2/DATA2 (io), 58 PC3/DATA3 (io), 59 PC4/DATA4 (io), 60 PC5/DATA5 (io), 61 PC6/DATA6 (io), 62 PC7/DATA7 (io), 63 VSS (power), 64 VDD (power), 65 E (out), 66 XOUT (out), 67 EXTAL, 68 XTAL, 69 ~{RESET} (io), 70 MODB/VSTBY (in), 71 MODA/~{LIR} (io), 72 PD0/RXD (io), 73 PD1/TXD (io), 74 PD2/MISO (io), 75 PD3/MOSI (io), 76 PD4/SCK (io), 77 PD5/~{SS} (io), 78 PA7/PAI/OC1 (io), 79 PA6/OC2/OC1 (io), 80 PA5/OC3/OC1 (io), 81 PA4/OC4/OC1 (io), 82 PA3/OC5/IC4/OC1 (io), 83 PA2/IC1 (io), 84 PA1/IC2 (io)

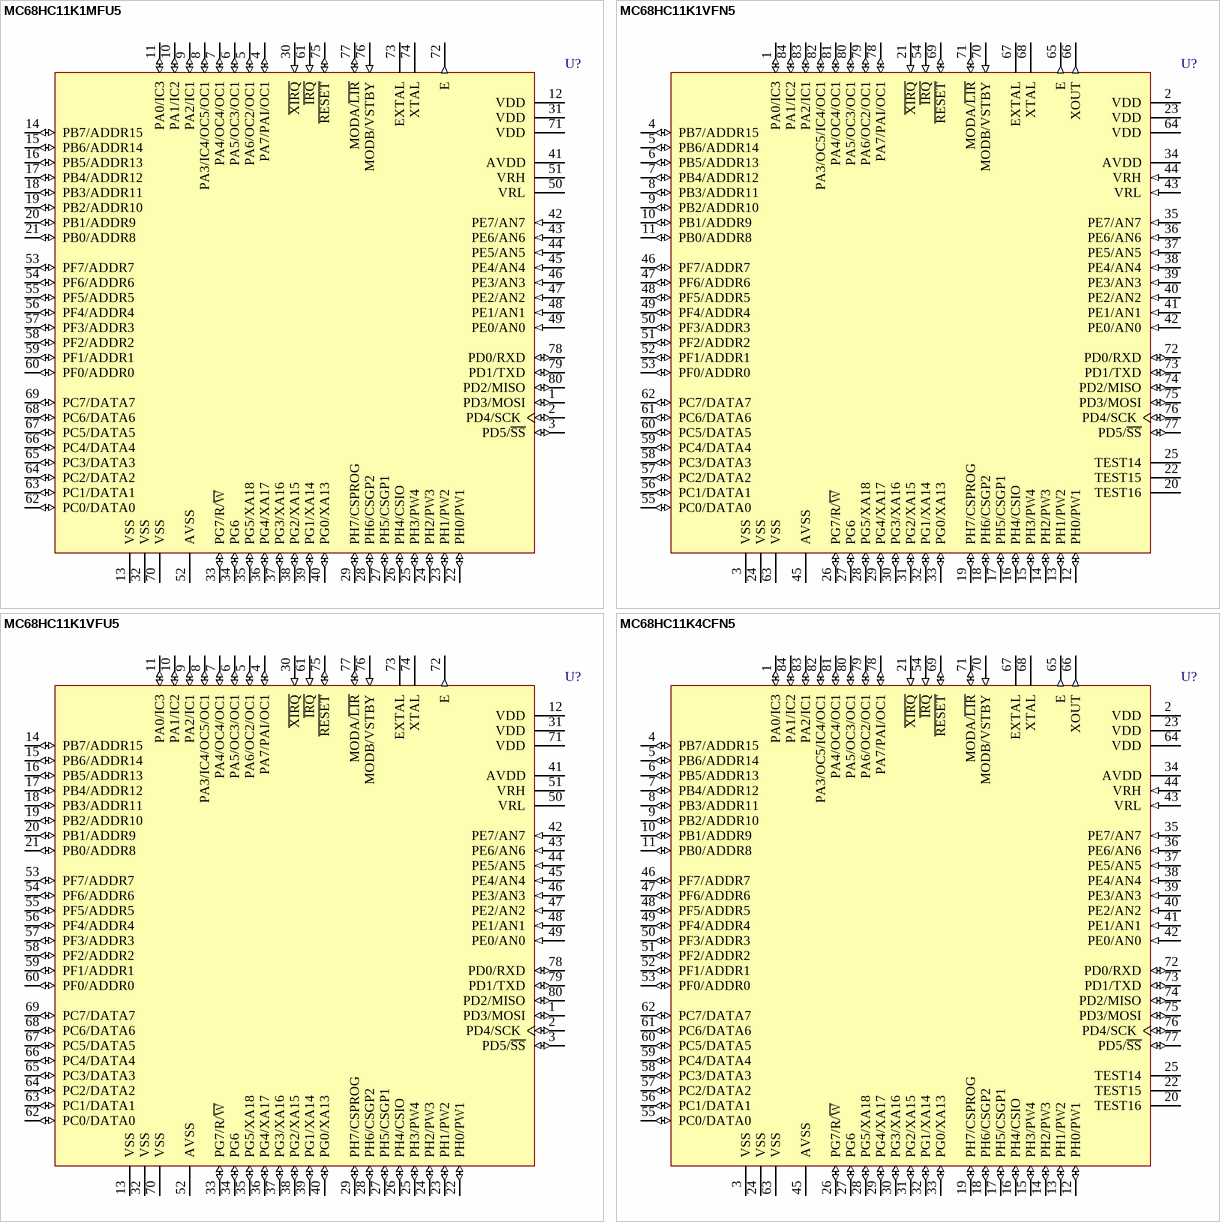
[diagram p43: symbols MC68HC11K1MFU5 to MC68HC11K4CFN5]

## MC68HC11K1MFU5
designator U?
8-Bit Microcontroller; Published: 17-Jan-2003; LatestRevisionDate: 13-Apr-2006; LatestRevisionNote: IPC-7351 Footprint Added.; DatasheetVersion: Nov-2001; PackageVersion: 2000; PackageReference: 841B; Publisher: Altium Limited; PackageDescription: 80-Pin Plastic Quad Flat Pack 0.65 mm Pitch; Code_IPC: QFP65P1720X1720-80; ComponentLink1Description: Manufacturer Link; ComponentLink1URL: http://www.freescale.com/
footprint 841B_N (QFP, 80-Leads, Body 14 x 14mm, Pitch 0.65mm, IPC Medium Density)
footprint 841B_L (QFP, 80-Leads, Body 14 x 14mm, Pitch 0.65mm, IPC High Density)
footprint 841B_M (QFP, 80-Leads, Body 14 x 14mm, Pitch 0.65mm, IPC Low Density)
3D model MC68HC11-841B (80-Pin Plastic Quad Flat Pack 0.65 mm Pitch)
pins: 1 PD3/MOSI (io), 2 PD4/SCK (io), 3 PD5/~{SS} (io), 4 PA7/PAI/OC1 (io), 5 PA6/OC2/OC1 (io), 6 PA5/OC3/OC1 (io), 7 PA4/OC4/OC1 (io), 8 PA3/IC4/OC5/OC1 (io), 9 PA2/IC1 (io), 10 PA1/IC2 (io), 11 PA0/IC3 (io), 12 VDD (power), 13 VSS (power), 14 PB7/ADDR15 (io), 15 PB6/ADDR14 (io), 16 PB5/ADDR13 (io), 17 PB4/ADDR12 (io), 18 PB3/ADDR11 (io), 19 PB2/ADDR10 (io), 20 PB1/ADDR9 (io), 21 PB0/ADDR8 (io), 22 PH0/PW1 (io), 23 PH1/PW2 (io), 24 PH2/PW3 (io), 25 PH3/PW4 (io), 26 PH4/CSIO (io), 27 PH5/CSGP1 (io), 28 PH6/CSGP2 (io), 29 PH7/CSPROG (io), 30 ~{XIRQ} (in), 31 VDD (power), 32 VSS (power), 33 PG7/R/~{W} (io), 34 PG6 (io), 35 PG5/XA18 (io), 36 PG4/XA17 (io), 37 PG3/XA16 (io), 38 PG2/XA15 (io), 39 PG1/XA14 (io), 40 PG0/XA13 (io), 41 AVDD (power), 42 PE7/AN7 (in), 43 PE6/AN6 (in), 44 PE5/AN5 (in), 45 PE4/AN4 (in), 46 PE3/AN3 (in), 47 PE2/AN2 (in), 48 PE1/AN1 (in), 49 PE0/AN0 (in), 50 VRL, 51 VRH, 52 AVSS (power), 53 PF7/ADDR7 (io), 54 PF6/ADDR6 (io), 55 PF5/ADDR5 (io), 56 PF4/ADDR4 (io), 57 PF3/ADDR3 (io), 58 PF2/ADDR2 (io), 59 PF1/ADDR1 (io), 60 PF0/ADDR0 (io), 61 ~{IRQ} (in), 62 PC0/DATA0 (io), 63 PC1/DATA1 (io), 64 PC2/DATA2 (io), 65 PC3/DATA3 (io), 66 PC4/DATA4 (io), 67 PC5/DATA5 (io), 68 PC6/DATA6 (io), 69 PC7/DATA7 (io), 70 VSS (power), 71 VDD (power), 72 E (out), 73 EXTAL, 74 XTAL, 75 ~{RESET} (io), 76 MODB/VSTBY (in), 77 MODA/~{LIR} (io), 78 PD0/RXD (io), 79 PD1/TXD (io), 80 PD2/MISO (io)

## MC68HC11K1VFN5
designator U?
8-Bit Microcontroller; Note: Pins 20, 22 and 25 are used only during factory testing. Do not connect to external circuitry.; Published: 17-Jan-2003; LatestRevisionDate: 13-Apr-2006; LatestRevisionNote: IPC-7351 Footprint Added.; DatasheetVersion: Nov-2001; PackageVersion: 2001; PackageReference: 780; Publisher: Altium Limited; PackageDescription: 84-Pin Plastic Leaded Chip Carrier 1.27 mm Pitch; Code_IPC: PLCC-84; ComponentLink1Description: Manufacturer Link; ComponentLink1URL: http://www.freescale.com/
footprint 780_N (Leaded Chip Carrier, 84-Leads, Body 29.3x29.3mm, Pitch 1.27mm, IPC Medium Density)
footprint 780_L (Leaded Chip Carrier, 84-Leads, Body 29.3x29.3mm, Pitch 1.27mm, IPC High Density)
footprint 780_M (Leaded Chip Carrier, 84-Leads, Body 29.3x29.3mm, Pitch 1.27mm, IPC Low Density)
3D model MC68HC11-780 (84-Pin Plastic Leaded Chip Carrier 1.27 mm Pitch)
pins: 1 PA0/IC3 (io), 2 VDD (power), 3 VSS (power), 4 PB7/ADDR15 (io), 5 PB6/ADDR14 (io), 6 PB5/ADDR13 (io), 7 PB4/ADDR12 (io), 8 PB3/ADDR11 (io), 9 PB2/ADDR10 (io), 10 PB1/ADDR9 (io), 11 PB0/ADDR8 (io), 12 PH0/PW1 (io), 13 PH1/PW2 (io), 14 PH2/PW3 (io), 15 PH3/PW4 (io), 16 PH4/CSIO (io), 17 PH5/CSGP1 (io), 18 PH6/CSGP2 (io), 19 PH7/CSPROG (io), 20 TEST16, 21 ~{XIRQ} (in), 22 TEST15, 23 VDD (power), 24 VSS (power), 25 TEST14, 26 PG7/R/~{W} (io), 27 PG6 (io), 28 PG5/XA18 (io), 29 PG4/XA17 (io), 30 PG3/XA16 (io), 31 PG2/XA15 (io), 32 PG1/XA14 (io), 33 PG0/XA13 (io), 34 AVDD (power), 35 PE7/AN7 (in), 36 PE6/AN6 (in), 37 PE5/AN5 (in), 38 PE4/AN4 (in), 39 PE3/AN3 (in), 40 PE2/AN2 (in), 41 PE1/AN1 (in), 42 PE0/AN0 (in), 43 VRL (in), 44 VRH (in), 45 AVSS (power), 46 PF7/ADDR7 (io), 47 PF6/ADDR6 (io), 48 PF5/ADDR5 (io), 49 PF4/ADDR4 (io), 50 PF3/ADDR3 (io), 51 PF2/ADDR2 (io), 52 PF1/ADDR1 (io), 53 PF0/ADDR0 (io), 54 ~{IRQ} (in), 55 PC0/DATA0 (io), 56 PC1/DATA1 (io), 57 PC2/DATA2 (io), 58 PC3/DATA3 (io), 59 PC4/DATA4 (io), 60 PC5/DATA5 (io), 61 PC6/DATA6 (io), 62 PC7/DATA7 (io), 63 VSS (power), 64 VDD (power), 65 E (out), 66 XOUT (out), 67 EXTAL, 68 XTAL, 69 ~{RESET} (io), 70 MODB/VSTBY (in), 71 MODA/~{LIR} (io), 72 PD0/RXD (io), 73 PD1/TXD (io), 74 PD2/MISO (io), 75 PD3/MOSI (io), 76 PD4/SCK (io), 77 PD5/~{SS} (io), 78 PA7/PAI/OC1 (io), 79 PA6/OC2/OC1 (io), 80 PA5/OC3/OC1 (io), 81 PA4/OC4/OC1 (io), 82 PA3/OC5/IC4/OC1 (io), 83 PA2/IC1 (io), 84 PA1/IC2 (io)

## MC68HC11K1VFU5
designator U?
8-Bit Microcontroller; Published: 17-Jan-2003; LatestRevisionDate: 13-Apr-2006; LatestRevisionNote: IPC-7351 Footprint Added.; DatasheetVersion: Nov-2001; PackageVersion: 2000; PackageReference: 841B; Publisher: Altium Limited; PackageDescription: 80-Pin Plastic Quad Flat Pack 0.65 mm Pitch; Code_IPC: QFP65P1720X1720-80; ComponentLink1Description: Manufacturer Link; ComponentLink1URL: http://www.freescale.com/
footprint 841B_N (QFP, 80-Leads, Body 14 x 14mm, Pitch 0.65mm, IPC Medium Density)
footprint 841B_L (QFP, 80-Leads, Body 14 x 14mm, Pitch 0.65mm, IPC High Density)
footprint 841B_M (QFP, 80-Leads, Body 14 x 14mm, Pitch 0.65mm, IPC Low Density)
3D model MC68HC11-841B (80-Pin Plastic Quad Flat Pack 0.65 mm Pitch)
pins: 1 PD3/MOSI (io), 2 PD4/SCK (io), 3 PD5/~{SS} (io), 4 PA7/PAI/OC1 (io), 5 PA6/OC2/OC1 (io), 6 PA5/OC3/OC1 (io), 7 PA4/OC4/OC1 (io), 8 PA3/IC4/OC5/OC1 (io), 9 PA2/IC1 (io), 10 PA1/IC2 (io), 11 PA0/IC3 (io), 12 VDD (power), 13 VSS (power), 14 PB7/ADDR15 (io), 15 PB6/ADDR14 (io), 16 PB5/ADDR13 (io), 17 PB4/ADDR12 (io), 18 PB3/ADDR11 (io), 19 PB2/ADDR10 (io), 20 PB1/ADDR9 (io), 21 PB0/ADDR8 (io), 22 PH0/PW1 (io), 23 PH1/PW2 (io), 24 PH2/PW3 (io), 25 PH3/PW4 (io), 26 PH4/CSIO (io), 27 PH5/CSGP1 (io), 28 PH6/CSGP2 (io), 29 PH7/CSPROG (io), 30 ~{XIRQ} (in), 31 VDD (power), 32 VSS (power), 33 PG7/R/~{W} (io), 34 PG6 (io), 35 PG5/XA18 (io), 36 PG4/XA17 (io), 37 PG3/XA16 (io), 38 PG2/XA15 (io), 39 PG1/XA14 (io), 40 PG0/XA13 (io), 41 AVDD (power), 42 PE7/AN7 (in), 43 PE6/AN6 (in), 44 PE5/AN5 (in), 45 PE4/AN4 (in), 46 PE3/AN3 (in), 47 PE2/AN2 (in), 48 PE1/AN1 (in), 49 PE0/AN0 (in), 50 VRL, 51 VRH, 52 AVSS (power), 53 PF7/ADDR7 (io), 54 PF6/ADDR6 (io), 55 PF5/ADDR5 (io), 56 PF4/ADDR4 (io), 57 PF3/ADDR3 (io), 58 PF2/ADDR2 (io), 59 PF1/ADDR1 (io), 60 PF0/ADDR0 (io), 61 ~{IRQ} (in), 62 PC0/DATA0 (io), 63 PC1/DATA1 (io), 64 PC2/DATA2 (io), 65 PC3/DATA3 (io), 66 PC4/DATA4 (io), 67 PC5/DATA5 (io), 68 PC6/DATA6 (io), 69 PC7/DATA7 (io), 70 VSS (power), 71 VDD (power), 72 E (out), 73 EXTAL, 74 XTAL, 75 ~{RESET} (io), 76 MODB/VSTBY (in), 77 MODA/~{LIR} (io), 78 PD0/RXD (io), 79 PD1/TXD (io), 80 PD2/MISO (io)

## MC68HC11K4CFN5
designator U?
8-Bit Microcontroller; Note: Pins 20, 22 and 25 are used only during factory testing. Do not connect to external circuitry.; Published: 17-Jan-2003; LatestRevisionDate: 13-Apr-2006; LatestRevisionNote: IPC-7351 Footprint Added.; DatasheetVersion: Nov-2001; PackageVersion: 2001; PackageReference: 780; Publisher: Altium Limited; PackageDescription: 84-Pin Plastic Leaded Chip Carrier 1.27 mm Pitch; Code_IPC: PLCC-84; ComponentLink1Description: Manufacturer Link; ComponentLink1URL: http://www.freescale.com/
footprint 780_N (Leaded Chip Carrier, 84-Leads, Body 29.3x29.3mm, Pitch 1.27mm, IPC Medium Density)
footprint 780_L (Leaded Chip Carrier, 84-Leads, Body 29.3x29.3mm, Pitch 1.27mm, IPC High Density)
footprint 780_M (Leaded Chip Carrier, 84-Leads, Body 29.3x29.3mm, Pitch 1.27mm, IPC Low Density)
3D model MC68HC11-780 (84-Pin Plastic Leaded Chip Carrier 1.27 mm Pitch)
pins: 1 PA0/IC3 (io), 2 VDD (power), 3 VSS (power), 4 PB7/ADDR15 (io), 5 PB6/ADDR14 (io), 6 PB5/ADDR13 (io), 7 PB4/ADDR12 (io), 8 PB3/ADDR11 (io), 9 PB2/ADDR10 (io), 10 PB1/ADDR9 (io), 11 PB0/ADDR8 (io), 12 PH0/PW1 (io), 13 PH1/PW2 (io), 14 PH2/PW3 (io), 15 PH3/PW4 (io), 16 PH4/CSIO (io), 17 PH5/CSGP1 (io), 18 PH6/CSGP2 (io), 19 PH7/CSPROG (io), 20 TEST16, 21 ~{XIRQ} (in), 22 TEST15, 23 VDD (power), 24 VSS (power), 25 TEST14, 26 PG7/R/~{W} (io), 27 PG6 (io), 28 PG5/XA18 (io), 29 PG4/XA17 (io), 30 PG3/XA16 (io), 31 PG2/XA15 (io), 32 PG1/XA14 (io), 33 PG0/XA13 (io), 34 AVDD (power), 35 PE7/AN7 (in), 36 PE6/AN6 (in), 37 PE5/AN5 (in), 38 PE4/AN4 (in), 39 PE3/AN3 (in), 40 PE2/AN2 (in), 41 PE1/AN1 (in), 42 PE0/AN0 (in), 43 VRL (in), 44 VRH (in), 45 AVSS (power), 46 PF7/ADDR7 (io), 47 PF6/ADDR6 (io), 48 PF5/ADDR5 (io), 49 PF4/ADDR4 (io), 50 PF3/ADDR3 (io), 51 PF2/ADDR2 (io), 52 PF1/ADDR1 (io), 53 PF0/ADDR0 (io), 54 ~{IRQ} (in), 55 PC0/DATA0 (io), 56 PC1/DATA1 (io), 57 PC2/DATA2 (io), 58 PC3/DATA3 (io), 59 PC4/DATA4 (io), 60 PC5/DATA5 (io), 61 PC6/DATA6 (io), 62 PC7/DATA7 (io), 63 VSS (power), 64 VDD (power), 65 E (out), 66 XOUT (out), 67 EXTAL, 68 XTAL, 69 ~{RESET} (io), 70 MODB/VSTBY (in), 71 MODA/~{LIR} (io), 72 PD0/RXD (io), 73 PD1/TXD (io), 74 PD2/MISO (io), 75 PD3/MOSI (io), 76 PD4/SCK (io), 77 PD5/~{SS} (io), 78 PA7/PAI/OC1 (io), 79 PA6/OC2/OC1 (io), 80 PA5/OC3/OC1 (io), 81 PA4/OC4/OC1 (io), 82 PA3/OC5/IC4/OC1 (io), 83 PA2/IC1 (io), 84 PA1/IC2 (io)

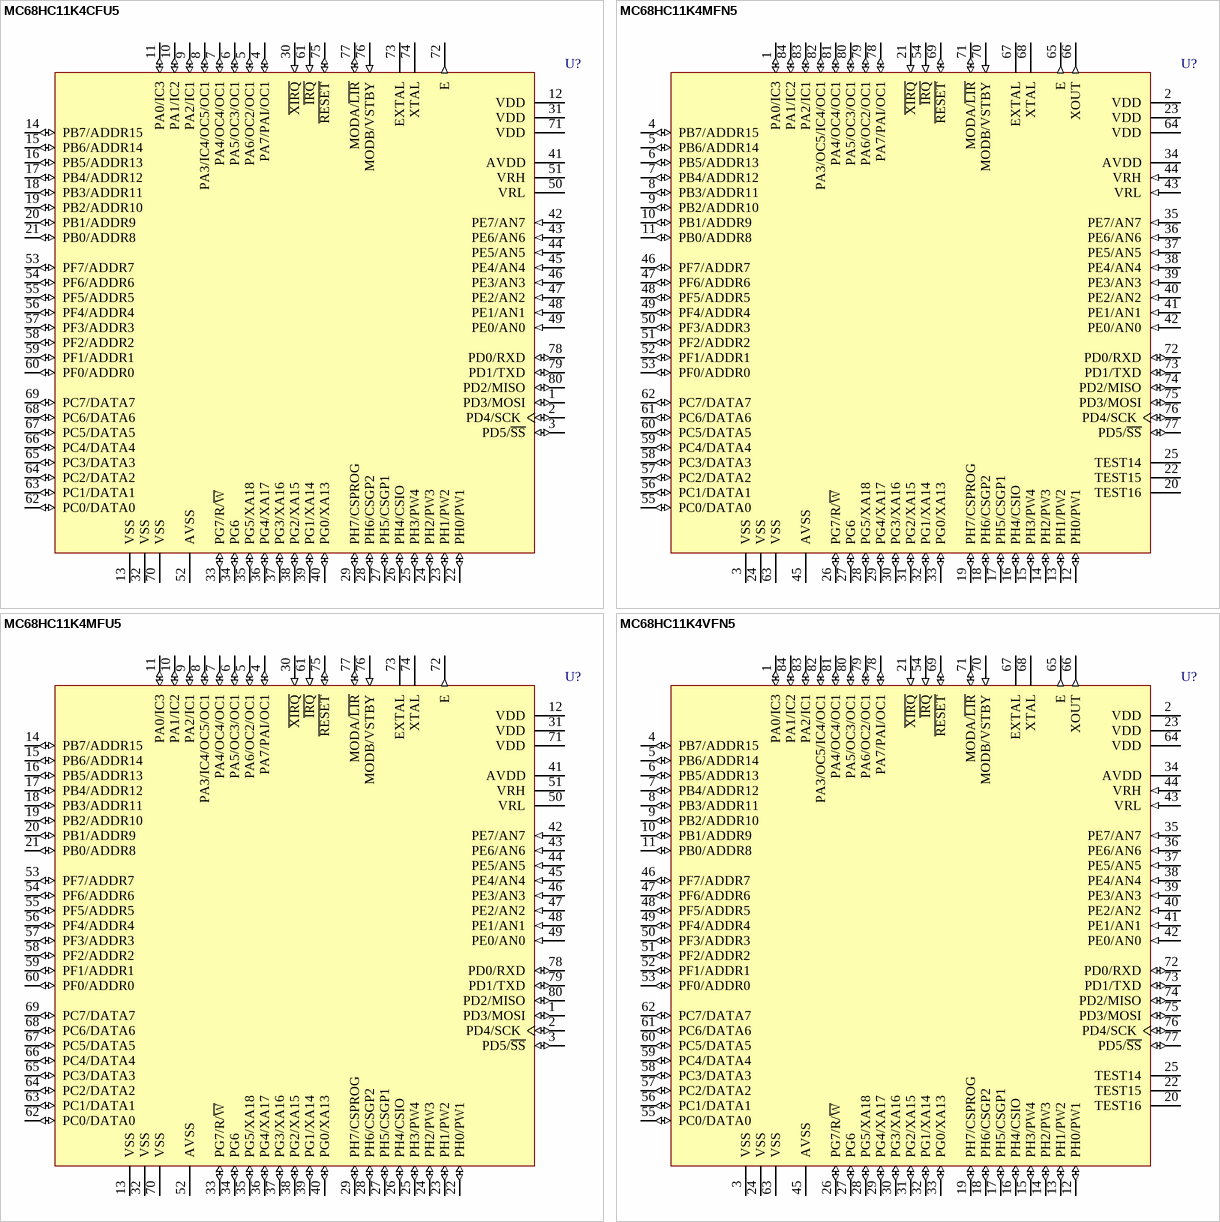
[diagram p44: symbols MC68HC11K4CFU5 to MC68HC11K4VFN5]

## MC68HC11K4CFU5
designator U?
8-Bit Microcontroller; Published: 17-Jan-2003; LatestRevisionDate: 13-Apr-2006; LatestRevisionNote: IPC-7351 Footprint Added.; DatasheetVersion: Nov-2001; PackageVersion: 2000; PackageReference: 841B; Publisher: Altium Limited; PackageDescription: 80-Pin Plastic Quad Flat Pack 0.65 mm Pitch; Code_IPC: QFP65P1720X1720-80; ComponentLink1Description: Manufacturer Link; ComponentLink1URL: http://www.freescale.com/
footprint 841B_N (QFP, 80-Leads, Body 14 x 14mm, Pitch 0.65mm, IPC Medium Density)
footprint 841B_L (QFP, 80-Leads, Body 14 x 14mm, Pitch 0.65mm, IPC High Density)
footprint 841B_M (QFP, 80-Leads, Body 14 x 14mm, Pitch 0.65mm, IPC Low Density)
3D model MC68HC11-841B (80-Pin Plastic Quad Flat Pack 0.65 mm Pitch)
pins: 1 PD3/MOSI (io), 2 PD4/SCK (io), 3 PD5/~{SS} (io), 4 PA7/PAI/OC1 (io), 5 PA6/OC2/OC1 (io), 6 PA5/OC3/OC1 (io), 7 PA4/OC4/OC1 (io), 8 PA3/IC4/OC5/OC1 (io), 9 PA2/IC1 (io), 10 PA1/IC2 (io), 11 PA0/IC3 (io), 12 VDD (power), 13 VSS (power), 14 PB7/ADDR15 (io), 15 PB6/ADDR14 (io), 16 PB5/ADDR13 (io), 17 PB4/ADDR12 (io), 18 PB3/ADDR11 (io), 19 PB2/ADDR10 (io), 20 PB1/ADDR9 (io), 21 PB0/ADDR8 (io), 22 PH0/PW1 (io), 23 PH1/PW2 (io), 24 PH2/PW3 (io), 25 PH3/PW4 (io), 26 PH4/CSIO (io), 27 PH5/CSGP1 (io), 28 PH6/CSGP2 (io), 29 PH7/CSPROG (io), 30 ~{XIRQ} (in), 31 VDD (power), 32 VSS (power), 33 PG7/R/~{W} (io), 34 PG6 (io), 35 PG5/XA18 (io), 36 PG4/XA17 (io), 37 PG3/XA16 (io), 38 PG2/XA15 (io), 39 PG1/XA14 (io), 40 PG0/XA13 (io), 41 AVDD (power), 42 PE7/AN7 (in), 43 PE6/AN6 (in), 44 PE5/AN5 (in), 45 PE4/AN4 (in), 46 PE3/AN3 (in), 47 PE2/AN2 (in), 48 PE1/AN1 (in), 49 PE0/AN0 (in), 50 VRL, 51 VRH, 52 AVSS (power), 53 PF7/ADDR7 (io), 54 PF6/ADDR6 (io), 55 PF5/ADDR5 (io), 56 PF4/ADDR4 (io), 57 PF3/ADDR3 (io), 58 PF2/ADDR2 (io), 59 PF1/ADDR1 (io), 60 PF0/ADDR0 (io), 61 ~{IRQ} (in), 62 PC0/DATA0 (io), 63 PC1/DATA1 (io), 64 PC2/DATA2 (io), 65 PC3/DATA3 (io), 66 PC4/DATA4 (io), 67 PC5/DATA5 (io), 68 PC6/DATA6 (io), 69 PC7/DATA7 (io), 70 VSS (power), 71 VDD (power), 72 E (out), 73 EXTAL, 74 XTAL, 75 ~{RESET} (io), 76 MODB/VSTBY (in), 77 MODA/~{LIR} (io), 78 PD0/RXD (io), 79 PD1/TXD (io), 80 PD2/MISO (io)

## MC68HC11K4MFN5
designator U?
8-Bit Microcontroller; Note: Pins 20, 22 and 25 are used only during factory testing. Do not connect to external circuitry.; Published: 17-Jan-2003; LatestRevisionDate: 13-Apr-2006; LatestRevisionNote: IPC-7351 Footprint Added.; DatasheetVersion: Nov-2001; PackageVersion: 2001; PackageReference: 780; Publisher: Altium Limited; PackageDescription: 84-Pin Plastic Leaded Chip Carrier 1.27 mm Pitch; Code_IPC: PLCC-84; ComponentLink1Description: Manufacturer Link; ComponentLink1URL: http://www.freescale.com/
footprint 780_N (Leaded Chip Carrier, 84-Leads, Body 29.3x29.3mm, Pitch 1.27mm, IPC Medium Density)
footprint 780_L (Leaded Chip Carrier, 84-Leads, Body 29.3x29.3mm, Pitch 1.27mm, IPC High Density)
footprint 780_M (Leaded Chip Carrier, 84-Leads, Body 29.3x29.3mm, Pitch 1.27mm, IPC Low Density)
3D model MC68HC11-780 (84-Pin Plastic Leaded Chip Carrier 1.27 mm Pitch)
pins: 1 PA0/IC3 (io), 2 VDD (power), 3 VSS (power), 4 PB7/ADDR15 (io), 5 PB6/ADDR14 (io), 6 PB5/ADDR13 (io), 7 PB4/ADDR12 (io), 8 PB3/ADDR11 (io), 9 PB2/ADDR10 (io), 10 PB1/ADDR9 (io), 11 PB0/ADDR8 (io), 12 PH0/PW1 (io), 13 PH1/PW2 (io), 14 PH2/PW3 (io), 15 PH3/PW4 (io), 16 PH4/CSIO (io), 17 PH5/CSGP1 (io), 18 PH6/CSGP2 (io), 19 PH7/CSPROG (io), 20 TEST16, 21 ~{XIRQ} (in), 22 TEST15, 23 VDD (power), 24 VSS (power), 25 TEST14, 26 PG7/R/~{W} (io), 27 PG6 (io), 28 PG5/XA18 (io), 29 PG4/XA17 (io), 30 PG3/XA16 (io), 31 PG2/XA15 (io), 32 PG1/XA14 (io), 33 PG0/XA13 (io), 34 AVDD (power), 35 PE7/AN7 (in), 36 PE6/AN6 (in), 37 PE5/AN5 (in), 38 PE4/AN4 (in), 39 PE3/AN3 (in), 40 PE2/AN2 (in), 41 PE1/AN1 (in), 42 PE0/AN0 (in), 43 VRL (in), 44 VRH (in), 45 AVSS (power), 46 PF7/ADDR7 (io), 47 PF6/ADDR6 (io), 48 PF5/ADDR5 (io), 49 PF4/ADDR4 (io), 50 PF3/ADDR3 (io), 51 PF2/ADDR2 (io), 52 PF1/ADDR1 (io), 53 PF0/ADDR0 (io), 54 ~{IRQ} (in), 55 PC0/DATA0 (io), 56 PC1/DATA1 (io), 57 PC2/DATA2 (io), 58 PC3/DATA3 (io), 59 PC4/DATA4 (io), 60 PC5/DATA5 (io), 61 PC6/DATA6 (io), 62 PC7/DATA7 (io), 63 VSS (power), 64 VDD (power), 65 E (out), 66 XOUT (out), 67 EXTAL, 68 XTAL, 69 ~{RESET} (io), 70 MODB/VSTBY (in), 71 MODA/~{LIR} (io), 72 PD0/RXD (io), 73 PD1/TXD (io), 74 PD2/MISO (io), 75 PD3/MOSI (io), 76 PD4/SCK (io), 77 PD5/~{SS} (io), 78 PA7/PAI/OC1 (io), 79 PA6/OC2/OC1 (io), 80 PA5/OC3/OC1 (io), 81 PA4/OC4/OC1 (io), 82 PA3/OC5/IC4/OC1 (io), 83 PA2/IC1 (io), 84 PA1/IC2 (io)

## MC68HC11K4MFU5
designator U?
8-Bit Microcontroller; Published: 17-Jan-2003; LatestRevisionDate: 13-Apr-2006; LatestRevisionNote: IPC-7351 Footprint Added.; DatasheetVersion: Nov-2001; PackageVersion: 2000; PackageReference: 841B; Publisher: Altium Limited; PackageDescription: 80-Pin Plastic Quad Flat Pack 0.65 mm Pitch; Code_IPC: QFP65P1720X1720-80; ComponentLink1Description: Manufacturer Link; ComponentLink1URL: http://www.freescale.com/
footprint 841B_N (QFP, 80-Leads, Body 14 x 14mm, Pitch 0.65mm, IPC Medium Density)
footprint 841B_L (QFP, 80-Leads, Body 14 x 14mm, Pitch 0.65mm, IPC High Density)
footprint 841B_M (QFP, 80-Leads, Body 14 x 14mm, Pitch 0.65mm, IPC Low Density)
3D model MC68HC11-841B (80-Pin Plastic Quad Flat Pack 0.65 mm Pitch)
pins: 1 PD3/MOSI (io), 2 PD4/SCK (io), 3 PD5/~{SS} (io), 4 PA7/PAI/OC1 (io), 5 PA6/OC2/OC1 (io), 6 PA5/OC3/OC1 (io), 7 PA4/OC4/OC1 (io), 8 PA3/IC4/OC5/OC1 (io), 9 PA2/IC1 (io), 10 PA1/IC2 (io), 11 PA0/IC3 (io), 12 VDD (power), 13 VSS (power), 14 PB7/ADDR15 (io), 15 PB6/ADDR14 (io), 16 PB5/ADDR13 (io), 17 PB4/ADDR12 (io), 18 PB3/ADDR11 (io), 19 PB2/ADDR10 (io), 20 PB1/ADDR9 (io), 21 PB0/ADDR8 (io), 22 PH0/PW1 (io), 23 PH1/PW2 (io), 24 PH2/PW3 (io), 25 PH3/PW4 (io), 26 PH4/CSIO (io), 27 PH5/CSGP1 (io), 28 PH6/CSGP2 (io), 29 PH7/CSPROG (io), 30 ~{XIRQ} (in), 31 VDD (power), 32 VSS (power), 33 PG7/R/~{W} (io), 34 PG6 (io), 35 PG5/XA18 (io), 36 PG4/XA17 (io), 37 PG3/XA16 (io), 38 PG2/XA15 (io), 39 PG1/XA14 (io), 40 PG0/XA13 (io), 41 AVDD (power), 42 PE7/AN7 (in), 43 PE6/AN6 (in), 44 PE5/AN5 (in), 45 PE4/AN4 (in), 46 PE3/AN3 (in), 47 PE2/AN2 (in), 48 PE1/AN1 (in), 49 PE0/AN0 (in), 50 VRL, 51 VRH, 52 AVSS (power), 53 PF7/ADDR7 (io), 54 PF6/ADDR6 (io), 55 PF5/ADDR5 (io), 56 PF4/ADDR4 (io), 57 PF3/ADDR3 (io), 58 PF2/ADDR2 (io), 59 PF1/ADDR1 (io), 60 PF0/ADDR0 (io), 61 ~{IRQ} (in), 62 PC0/DATA0 (io), 63 PC1/DATA1 (io), 64 PC2/DATA2 (io), 65 PC3/DATA3 (io), 66 PC4/DATA4 (io), 67 PC5/DATA5 (io), 68 PC6/DATA6 (io), 69 PC7/DATA7 (io), 70 VSS (power), 71 VDD (power), 72 E (out), 73 EXTAL, 74 XTAL, 75 ~{RESET} (io), 76 MODB/VSTBY (in), 77 MODA/~{LIR} (io), 78 PD0/RXD (io), 79 PD1/TXD (io), 80 PD2/MISO (io)

## MC68HC11K4VFN5
designator U?
8-Bit Microcontroller; Note: Pins 20, 22 and 25 are used only during factory testing. Do not connect to external circuitry.; Published: 17-Jan-2003; LatestRevisionDate: 13-Apr-2006; LatestRevisionNote: IPC-7351 Footprint Added.; DatasheetVersion: Nov-2001; PackageVersion: 2001; PackageReference: 780; Publisher: Altium Limited; PackageDescription: 84-Pin Plastic Leaded Chip Carrier 1.27 mm Pitch; Code_IPC: PLCC-84; ComponentLink1Description: Manufacturer Link; ComponentLink1URL: http://www.freescale.com/
footprint 780_N (Leaded Chip Carrier, 84-Leads, Body 29.3x29.3mm, Pitch 1.27mm, IPC Medium Density)
footprint 780_L (Leaded Chip Carrier, 84-Leads, Body 29.3x29.3mm, Pitch 1.27mm, IPC High Density)
footprint 780_M (Leaded Chip Carrier, 84-Leads, Body 29.3x29.3mm, Pitch 1.27mm, IPC Low Density)
3D model MC68HC11-780 (84-Pin Plastic Leaded Chip Carrier 1.27 mm Pitch)
pins: 1 PA0/IC3 (io), 2 VDD (power), 3 VSS (power), 4 PB7/ADDR15 (io), 5 PB6/ADDR14 (io), 6 PB5/ADDR13 (io), 7 PB4/ADDR12 (io), 8 PB3/ADDR11 (io), 9 PB2/ADDR10 (io), 10 PB1/ADDR9 (io), 11 PB0/ADDR8 (io), 12 PH0/PW1 (io), 13 PH1/PW2 (io), 14 PH2/PW3 (io), 15 PH3/PW4 (io), 16 PH4/CSIO (io), 17 PH5/CSGP1 (io), 18 PH6/CSGP2 (io), 19 PH7/CSPROG (io), 20 TEST16, 21 ~{XIRQ} (in), 22 TEST15, 23 VDD (power), 24 VSS (power), 25 TEST14, 26 PG7/R/~{W} (io), 27 PG6 (io), 28 PG5/XA18 (io), 29 PG4/XA17 (io), 30 PG3/XA16 (io), 31 PG2/XA15 (io), 32 PG1/XA14 (io), 33 PG0/XA13 (io), 34 AVDD (power), 35 PE7/AN7 (in), 36 PE6/AN6 (in), 37 PE5/AN5 (in), 38 PE4/AN4 (in), 39 PE3/AN3 (in), 40 PE2/AN2 (in), 41 PE1/AN1 (in), 42 PE0/AN0 (in), 43 VRL (in), 44 VRH (in), 45 AVSS (power), 46 PF7/ADDR7 (io), 47 PF6/ADDR6 (io), 48 PF5/ADDR5 (io), 49 PF4/ADDR4 (io), 50 PF3/ADDR3 (io), 51 PF2/ADDR2 (io), 52 PF1/ADDR1 (io), 53 PF0/ADDR0 (io), 54 ~{IRQ} (in), 55 PC0/DATA0 (io), 56 PC1/DATA1 (io), 57 PC2/DATA2 (io), 58 PC3/DATA3 (io), 59 PC4/DATA4 (io), 60 PC5/DATA5 (io), 61 PC6/DATA6 (io), 62 PC7/DATA7 (io), 63 VSS (power), 64 VDD (power), 65 E (out), 66 XOUT (out), 67 EXTAL, 68 XTAL, 69 ~{RESET} (io), 70 MODB/VSTBY (in), 71 MODA/~{LIR} (io), 72 PD0/RXD (io), 73 PD1/TXD (io), 74 PD2/MISO (io), 75 PD3/MOSI (io), 76 PD4/SCK (io), 77 PD5/~{SS} (io), 78 PA7/PAI/OC1 (io), 79 PA6/OC2/OC1 (io), 80 PA5/OC3/OC1 (io), 81 PA4/OC4/OC1 (io), 82 PA3/OC5/IC4/OC1 (io), 83 PA2/IC1 (io), 84 PA1/IC2 (io)

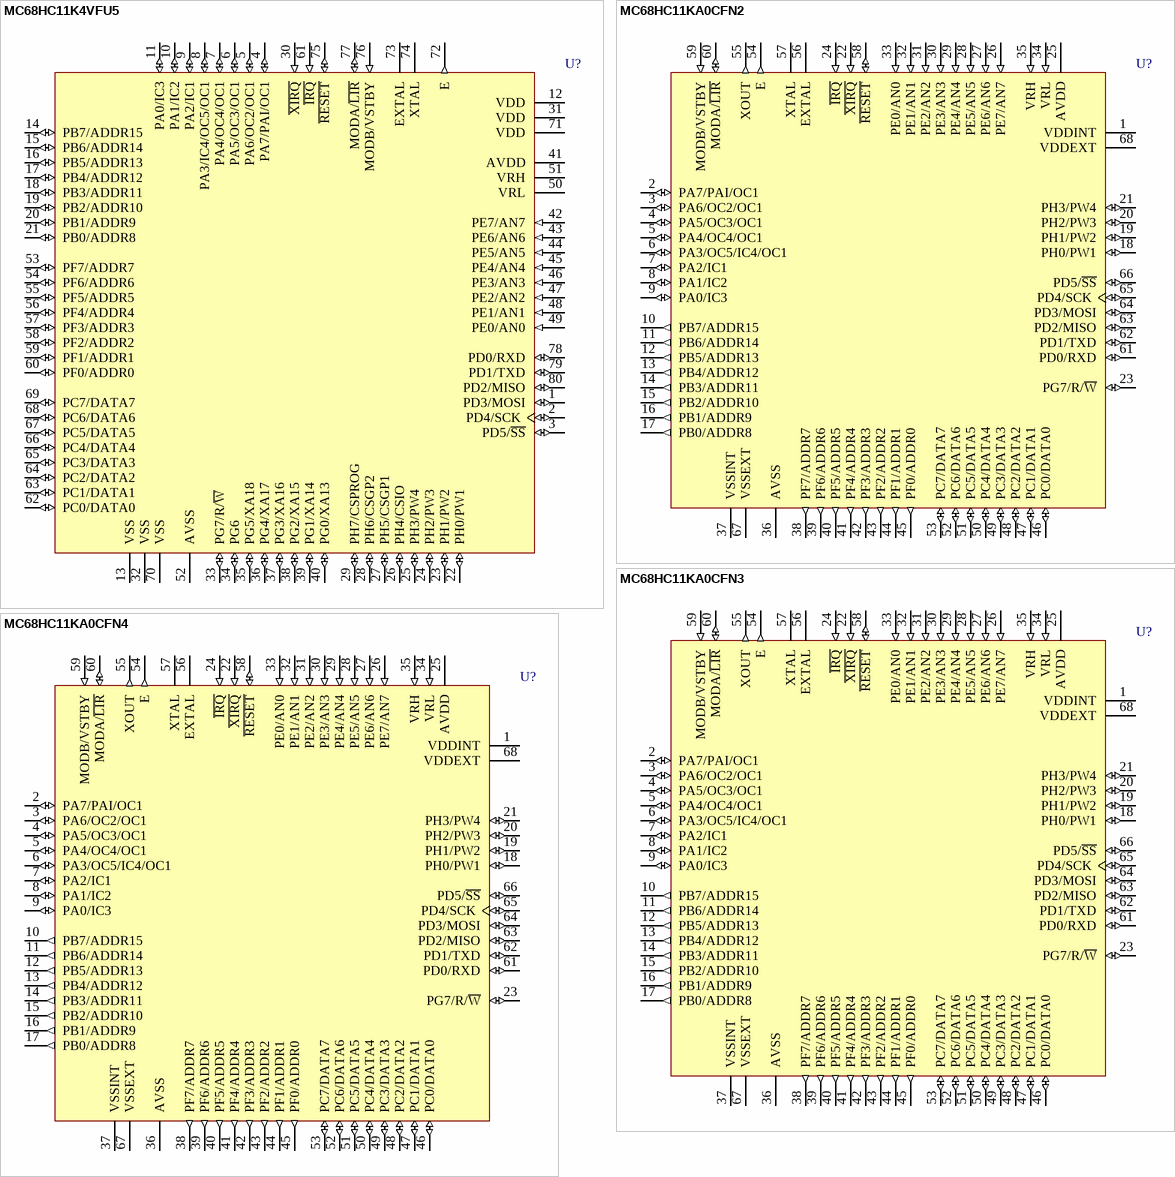
[diagram p45: symbols MC68HC11K4VFU5 to MC68HC11KA0CFN4]

## MC68HC11K4VFU5
designator U?
8-Bit Microcontroller; Published: 17-Jan-2003; LatestRevisionDate: 13-Apr-2006; LatestRevisionNote: IPC-7351 Footprint Added.; DatasheetVersion: Nov-2001; PackageVersion: 2000; PackageReference: 841B; Publisher: Altium Limited; PackageDescription: 80-Pin Plastic Quad Flat Pack 0.65 mm Pitch; Code_IPC: QFP65P1720X1720-80; ComponentLink1Description: Manufacturer Link; ComponentLink1URL: http://www.freescale.com/
footprint 841B_N (QFP, 80-Leads, Body 14 x 14mm, Pitch 0.65mm, IPC Medium Density)
footprint 841B_L (QFP, 80-Leads, Body 14 x 14mm, Pitch 0.65mm, IPC High Density)
footprint 841B_M (QFP, 80-Leads, Body 14 x 14mm, Pitch 0.65mm, IPC Low Density)
3D model MC68HC11-841B (80-Pin Plastic Quad Flat Pack 0.65 mm Pitch)
pins: 1 PD3/MOSI (io), 2 PD4/SCK (io), 3 PD5/~{SS} (io), 4 PA7/PAI/OC1 (io), 5 PA6/OC2/OC1 (io), 6 PA5/OC3/OC1 (io), 7 PA4/OC4/OC1 (io), 8 PA3/IC4/OC5/OC1 (io), 9 PA2/IC1 (io), 10 PA1/IC2 (io), 11 PA0/IC3 (io), 12 VDD (power), 13 VSS (power), 14 PB7/ADDR15 (io), 15 PB6/ADDR14 (io), 16 PB5/ADDR13 (io), 17 PB4/ADDR12 (io), 18 PB3/ADDR11 (io), 19 PB2/ADDR10 (io), 20 PB1/ADDR9 (io), 21 PB0/ADDR8 (io), 22 PH0/PW1 (io), 23 PH1/PW2 (io), 24 PH2/PW3 (io), 25 PH3/PW4 (io), 26 PH4/CSIO (io), 27 PH5/CSGP1 (io), 28 PH6/CSGP2 (io), 29 PH7/CSPROG (io), 30 ~{XIRQ} (in), 31 VDD (power), 32 VSS (power), 33 PG7/R/~{W} (io), 34 PG6 (io), 35 PG5/XA18 (io), 36 PG4/XA17 (io), 37 PG3/XA16 (io), 38 PG2/XA15 (io), 39 PG1/XA14 (io), 40 PG0/XA13 (io), 41 AVDD (power), 42 PE7/AN7 (in), 43 PE6/AN6 (in), 44 PE5/AN5 (in), 45 PE4/AN4 (in), 46 PE3/AN3 (in), 47 PE2/AN2 (in), 48 PE1/AN1 (in), 49 PE0/AN0 (in), 50 VRL, 51 VRH, 52 AVSS (power), 53 PF7/ADDR7 (io), 54 PF6/ADDR6 (io), 55 PF5/ADDR5 (io), 56 PF4/ADDR4 (io), 57 PF3/ADDR3 (io), 58 PF2/ADDR2 (io), 59 PF1/ADDR1 (io), 60 PF0/ADDR0 (io), 61 ~{IRQ} (in), 62 PC0/DATA0 (io), 63 PC1/DATA1 (io), 64 PC2/DATA2 (io), 65 PC3/DATA3 (io), 66 PC4/DATA4 (io), 67 PC5/DATA5 (io), 68 PC6/DATA6 (io), 69 PC7/DATA7 (io), 70 VSS (power), 71 VDD (power), 72 E (out), 73 EXTAL, 74 XTAL, 75 ~{RESET} (io), 76 MODB/VSTBY (in), 77 MODA/~{LIR} (io), 78 PD0/RXD (io), 79 PD1/TXD (io), 80 PD2/MISO (io)

## MC68HC11KA0CFN2
designator U?
8-Bit Microcontroller; Published: 17-Jan-2003; LatestRevisionDate: 13-Apr-2006; LatestRevisionNote: IPC-7351 Footprint Added.; DatasheetVersion: 1996; PackageVersion: 2001; PackageReference: 779-02; Publisher: Altium Limited; PackageDescription: 68-Pin Leaded Chip Carrier 1.27 mm Pitch; ComponentLink1Description: Manufacturer Link; ComponentLink1URL: http://www.freescale.com/
footprint 779-02_N (Leaded Chip Carrier, 68-Leads, Body 24.2x24.2mm, Pitch 1.27mm, IPC Medium Density)
footprint 779-02_L (Leaded Chip Carrier, 68-Leads, Body 24.2x24.2mm, Pitch 1.27mm, IPC High Density)
footprint 779-02_M (Leaded Chip Carrier, 68-Leads, Body 24.2x24.2mm, Pitch 1.27mm, IPC Low Density)
3D model MC68HC11-779-02 (68-Pin Leaded Chip Carrier 1.27 mm Pitch)
pins: 1 VDDINT (power), 2 PA7/PAI/OC1 (io), 3 PA6/OC2/OC1 (io), 4 PA5/OC3/OC1 (io), 5 PA4/OC4/OC1 (io), 6 PA3/OC5/IC4/OC1 (io), 7 PA2/IC1 (io), 8 PA1/IC2 (io), 9 PA0/IC3 (io), 10 PB7/ADDR15 (out), 11 PB6/ADDR14 (out), 12 PB5/ADDR13 (out), 13 PB4/ADDR12 (out), 14 PB3/ADDR11 (out), 15 PB2/ADDR10 (out), 16 PB1/ADDR9 (out), 17 PB0/ADDR8 (out), 18 PH0/PW1 (io), 19 PH1/PW2 (io), 20 PH2/PW3 (io), 21 PH3/PW4 (io), 22 ~{XIRQ} (in), 23 PG7/R/~{W} (io), 24 ~{IRQ} (in), 25 AVDD (power), 26 PE7/AN7 (in), 27 PE6/AN6 (in), 28 PE5/AN5 (in), 29 PE4/AN4 (in), 30 PE3/AN3 (in), 31 PE2/AN2 (in), 32 PE1/AN1 (in), 33 PE0/AN0 (in), 34 VRL (in), 35 VRH (in), 36 AVSS (power), 37 VSSINT (power), 38 PF7/ADDR7 (out), 39 PF6/ADDR6 (out), 40 PF5/ADDR5 (out), 41 PF4/ADDR4 (out), 42 PF3/ADDR3 (out), 43 PF2/ADDR2 (out), 44 PF1/ADDR1 (out), 45 PF0/ADDR0 (out), 46 PC0/DATA0 (io), 47 PC1/DATA1 (io), 48 PC2/DATA2 (io), 49 PC3/DATA3 (io), 50 PC4/DATA4 (io), 51 PC5/DATA5 (io), 52 PC6/DATA6 (io), 53 PC7/DATA7 (io), 54 E (out), 55 XOUT (out), 56 EXTAL, 57 XTAL, 58 ~{RESET} (io), 59 MODB/VSTBY (in), 60 MODA/~{LIR} (io), 61 PD0/RXD (io), 62 PD1/TXD (io), 63 PD2/MISO (io), 64 PD3/MOSI (io), 65 PD4/SCK (io), 66 PD5/~{SS} (io), 67 VSSEXT (power), 68 VDDEXT (power)

## MC68HC11KA0CFN3
designator U?
8-Bit Microcontroller; Published: 17-Jan-2003; LatestRevisionDate: 13-Apr-2006; LatestRevisionNote: IPC-7351 Footprint Added.; DatasheetVersion: 1996; PackageVersion: 2001; PackageReference: 779-02; Publisher: Altium Limited; PackageDescription: 68-Pin Leaded Chip Carrier 1.27 mm Pitch; ComponentLink1Description: Manufacturer Link; ComponentLink1URL: http://www.freescale.com/
footprint 779-02_N (Leaded Chip Carrier, 68-Leads, Body 24.2x24.2mm, Pitch 1.27mm, IPC Medium Density)
footprint 779-02_L (Leaded Chip Carrier, 68-Leads, Body 24.2x24.2mm, Pitch 1.27mm, IPC High Density)
footprint 779-02_M (Leaded Chip Carrier, 68-Leads, Body 24.2x24.2mm, Pitch 1.27mm, IPC Low Density)
3D model MC68HC11-779-02 (68-Pin Leaded Chip Carrier 1.27 mm Pitch)
pins: 1 VDDINT (power), 2 PA7/PAI/OC1 (io), 3 PA6/OC2/OC1 (io), 4 PA5/OC3/OC1 (io), 5 PA4/OC4/OC1 (io), 6 PA3/OC5/IC4/OC1 (io), 7 PA2/IC1 (io), 8 PA1/IC2 (io), 9 PA0/IC3 (io), 10 PB7/ADDR15 (out), 11 PB6/ADDR14 (out), 12 PB5/ADDR13 (out), 13 PB4/ADDR12 (out), 14 PB3/ADDR11 (out), 15 PB2/ADDR10 (out), 16 PB1/ADDR9 (out), 17 PB0/ADDR8 (out), 18 PH0/PW1 (io), 19 PH1/PW2 (io), 20 PH2/PW3 (io), 21 PH3/PW4 (io), 22 ~{XIRQ} (in), 23 PG7/R/~{W} (io), 24 ~{IRQ} (in), 25 AVDD (power), 26 PE7/AN7 (in), 27 PE6/AN6 (in), 28 PE5/AN5 (in), 29 PE4/AN4 (in), 30 PE3/AN3 (in), 31 PE2/AN2 (in), 32 PE1/AN1 (in), 33 PE0/AN0 (in), 34 VRL (in), 35 VRH (in), 36 AVSS (power), 37 VSSINT (power), 38 PF7/ADDR7 (out), 39 PF6/ADDR6 (out), 40 PF5/ADDR5 (out), 41 PF4/ADDR4 (out), 42 PF3/ADDR3 (out), 43 PF2/ADDR2 (out), 44 PF1/ADDR1 (out), 45 PF0/ADDR0 (out), 46 PC0/DATA0 (io), 47 PC1/DATA1 (io), 48 PC2/DATA2 (io), 49 PC3/DATA3 (io), 50 PC4/DATA4 (io), 51 PC5/DATA5 (io), 52 PC6/DATA6 (io), 53 PC7/DATA7 (io), 54 E (out), 55 XOUT (out), 56 EXTAL, 57 XTAL, 58 ~{RESET} (io), 59 MODB/VSTBY (in), 60 MODA/~{LIR} (io), 61 PD0/RXD (io), 62 PD1/TXD (io), 63 PD2/MISO (io), 64 PD3/MOSI (io), 65 PD4/SCK (io), 66 PD5/~{SS} (io), 67 VSSEXT (power), 68 VDDEXT (power)

## MC68HC11KA0CFN4
designator U?
8-Bit Microcontroller; Published: 17-Jan-2003; LatestRevisionDate: 13-Apr-2006; LatestRevisionNote: IPC-7351 Footprint Added.; DatasheetVersion: 1996; PackageVersion: 2001; PackageReference: 779-02; Publisher: Altium Limited; PackageDescription: 68-Pin Leaded Chip Carrier 1.27 mm Pitch; ComponentLink1Description: Manufacturer Link; ComponentLink1URL: http://www.freescale.com/
footprint 779-02_N (Leaded Chip Carrier, 68-Leads, Body 24.2x24.2mm, Pitch 1.27mm, IPC Medium Density)
footprint 779-02_L (Leaded Chip Carrier, 68-Leads, Body 24.2x24.2mm, Pitch 1.27mm, IPC High Density)
footprint 779-02_M (Leaded Chip Carrier, 68-Leads, Body 24.2x24.2mm, Pitch 1.27mm, IPC Low Density)
3D model MC68HC11-779-02 (68-Pin Leaded Chip Carrier 1.27 mm Pitch)
pins: 1 VDDINT (power), 2 PA7/PAI/OC1 (io), 3 PA6/OC2/OC1 (io), 4 PA5/OC3/OC1 (io), 5 PA4/OC4/OC1 (io), 6 PA3/OC5/IC4/OC1 (io), 7 PA2/IC1 (io), 8 PA1/IC2 (io), 9 PA0/IC3 (io), 10 PB7/ADDR15 (out), 11 PB6/ADDR14 (out), 12 PB5/ADDR13 (out), 13 PB4/ADDR12 (out), 14 PB3/ADDR11 (out), 15 PB2/ADDR10 (out), 16 PB1/ADDR9 (out), 17 PB0/ADDR8 (out), 18 PH0/PW1 (io), 19 PH1/PW2 (io), 20 PH2/PW3 (io), 21 PH3/PW4 (io), 22 ~{XIRQ} (in), 23 PG7/R/~{W} (io), 24 ~{IRQ} (in), 25 AVDD (power), 26 PE7/AN7 (in), 27 PE6/AN6 (in), 28 PE5/AN5 (in), 29 PE4/AN4 (in), 30 PE3/AN3 (in), 31 PE2/AN2 (in), 32 PE1/AN1 (in), 33 PE0/AN0 (in), 34 VRL (in), 35 VRH (in), 36 AVSS (power), 37 VSSINT (power), 38 PF7/ADDR7 (out), 39 PF6/ADDR6 (out), 40 PF5/ADDR5 (out), 41 PF4/ADDR4 (out), 42 PF3/ADDR3 (out), 43 PF2/ADDR2 (out), 44 PF1/ADDR1 (out), 45 PF0/ADDR0 (out), 46 PC0/DATA0 (io), 47 PC1/DATA1 (io), 48 PC2/DATA2 (io), 49 PC3/DATA3 (io), 50 PC4/DATA4 (io), 51 PC5/DATA5 (io), 52 PC6/DATA6 (io), 53 PC7/DATA7 (io), 54 E (out), 55 XOUT (out), 56 EXTAL, 57 XTAL, 58 ~{RESET} (io), 59 MODB/VSTBY (in), 60 MODA/~{LIR} (io), 61 PD0/RXD (io), 62 PD1/TXD (io), 63 PD2/MISO (io), 64 PD3/MOSI (io), 65 PD4/SCK (io), 66 PD5/~{SS} (io), 67 VSSEXT (power), 68 VDDEXT (power)

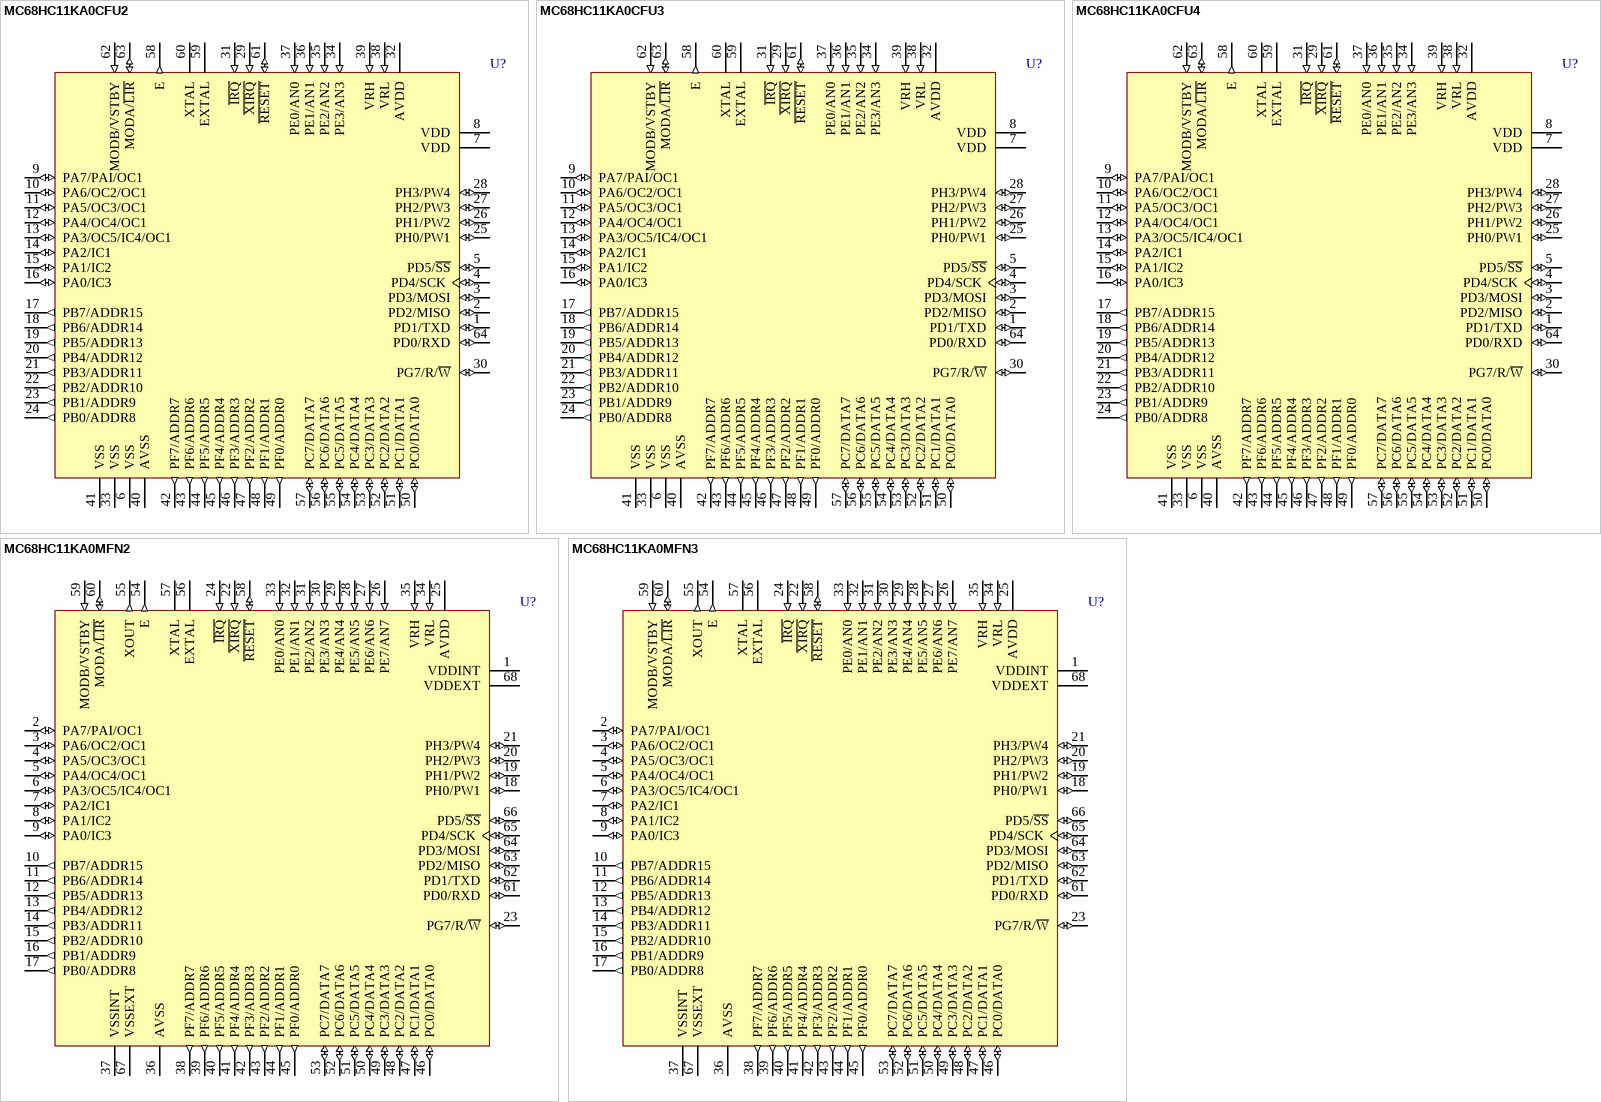
[diagram p46: symbols MC68HC11KA0CFU2 to MC68HC11KA0MFN3]